# Altium integrated library Actel IGLOO.IntLib: 429 symbols (part 1 of 45)
Pins are listed as number, name and electrical type; pins without a type are passive.

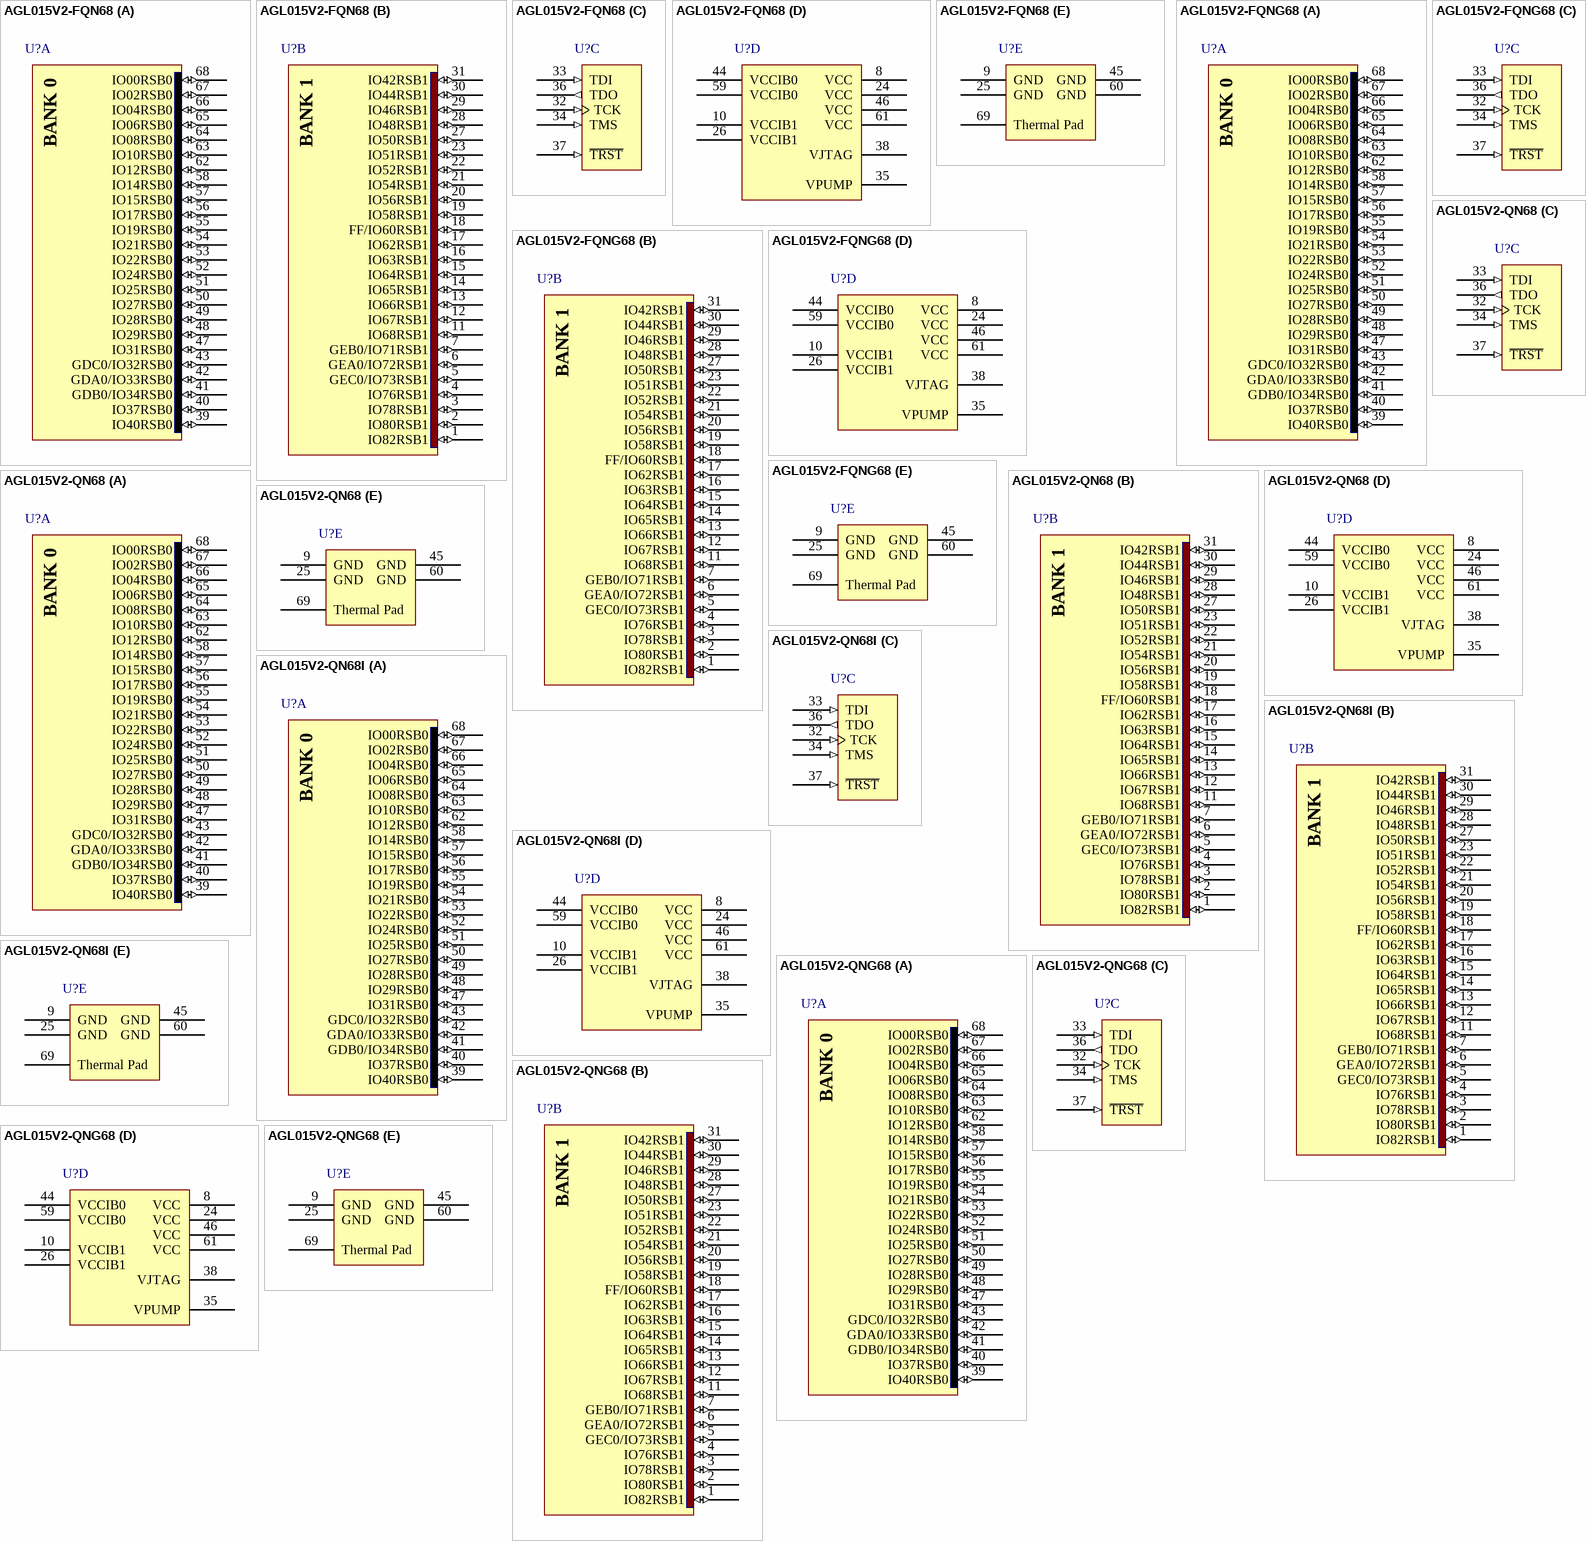
[diagram p0: symbols AGL015V2-FQN68 to AGL015V2-QNG68]

## AGL015V2-FQN68
designator U?
IGLOO Low-Power Flash 1.2/1.5V FPGA with Flash*Freeze, 49 User IOs, 15K System Gates, 1Kbit Flash ROM, 68-Pin QFN, F Speed Grade, Commercial Grade; DatasheetVersion: v1.2, Feb-2008; PackageVersion: rev40, Jun-2011; PackageReference: QN68; PackageDescription: 68-Pin Quad Flat No-Lead 0.4 mm Pitch (QN68); Code_JEDEC: MO-220-VLLE-1; ComponentLink1Description: Manufacturer URL; ComponentLink1URL: http://www.actel.com/; ComponentLink2Description: IGLOO Datasheet; ComponentLink2URL: http://www.actel.com/documents/IGLOO_DS.pdf; ComponentLink3Description: Package Mechanical Drawings; ComponentLink3URL: http://www.actel.com/documents/PckgMechDrwngs.pdf; ComponentLink4Description: IGLOO Documents; ComponentLink4URL: http://www.actel.com/products/igloo/docs.aspx
footprint QN68_N (QFN, 68-Leads, Body 8x8mm, Pitch 0.4mm, Thermal Pad 3.1x3.1mm, IPC Medium Density)
footprint QN68_L (QFN, 68-Leads, Body 8x8mm, Pitch 0.4mm, Thermal Pad 3.1x3.1mm, IPC High Density)
footprint QN68_M (QFN, 68-Leads, Body 8x8mm, Pitch 0.4mm, Thermal Pad 3.1x3.1mm, IPC Low Density)
part A pins: 39 IO40RSB0 (io), 40 IO37RSB0 (io), 41 GDB0/IO34RSB0 (io), 42 GDA0/IO33RSB0 (io), 43 GDC0/IO32RSB0 (io), 47 IO31RSB0 (io), 48 IO29RSB0 (io), 49 IO28RSB0 (io), 50 IO27RSB0 (io), 51 IO25RSB0 (io), 52 IO24RSB0 (io), 53 IO22RSB0 (io), 54 IO21RSB0 (io), 55 IO19RSB0 (io), 56 IO17RSB0 (io), 57 IO15RSB0 (io), 58 IO14RSB0 (io), 62 IO12RSB0 (io), 63 IO10RSB0 (io), 64 IO08RSB0 (io), 65 IO06RSB0 (io), 66 IO04RSB0 (io), 67 IO02RSB0 (io), 68 IO00RSB0 (io)
part B pins: 1 IO82RSB1 (io), 2 IO80RSB1 (io), 3 IO78RSB1 (io), 4 IO76RSB1 (io), 5 GEC0/IO73RSB1 (io), 6 GEA0/IO72RSB1 (io), 7 GEB0/IO71RSB1 (io), 11 IO68RSB1 (io), 12 IO67RSB1 (io), 13 IO66RSB1 (io), 14 IO65RSB1 (io), 15 IO64RSB1 (io), 16 IO63RSB1 (io), 17 IO62RSB1 (io), 18 FF/IO60RSB1 (io), 19 IO58RSB1 (io), 20 IO56RSB1 (io), 21 IO54RSB1 (io), 22 IO52RSB1 (io), 23 IO51RSB1 (io), 27 IO50RSB1 (io), 28 IO48RSB1 (io), 29 IO46RSB1 (io), 30 IO44RSB1 (io), 31 IO42RSB1 (io)
part C pins: 32 TCK (in), 33 TDI (in), 34 TMS (in), 36 TDO (out), 37 ~{TRST} (in)
part D pins: 8 VCC (power), 10 VCCIB1 (power), 24 VCC (power), 26 VCCIB1 (power), 35 VPUMP (power), 38 VJTAG (power), 44 VCCIB0 (power), 46 VCC (power), 59 VCCIB0 (power), 61 VCC (power)
part E pins: 9 GND (power), 25 GND (power), 45 GND (power), 60 GND (power), 69 Thermal Pad (power)
part A text: BANK 0
part B text: BANK 1

## AGL015V2-FQNG68
designator U?
IGLOO Low-Power Flash 1.2/1.5V FPGA with Flash*Freeze, 49 User IOs, 15K System Gates, 1Kbit Flash ROM, 68-Pin QFN, F Speed Grade, Commercial Grade, Pb-Free; DatasheetVersion: v1.2, Feb-2008; PackageVersion: rev40, Jun-2011; PackageReference: QN68; PackageDescription: 68-Pin Quad Flat No-Lead 0.4 mm Pitch (QN68); Code_JEDEC: MO-220-VLLE-1; ComponentLink1Description: Manufacturer URL; ComponentLink1URL: http://www.actel.com/; ComponentLink2Description: IGLOO Datasheet; ComponentLink2URL: http://www.actel.com/documents/IGLOO_DS.pdf; ComponentLink3Description: Package Mechanical Drawings; ComponentLink3URL: http://www.actel.com/documents/PckgMechDrwngs.pdf; ComponentLink4Description: IGLOO Documents; ComponentLink4URL: http://www.actel.com/products/igloo/docs.aspx
footprint QN68_N (QFN, 68-Leads, Body 8x8mm, Pitch 0.4mm, Thermal Pad 3.1x3.1mm, IPC Medium Density)
footprint QN68_L (QFN, 68-Leads, Body 8x8mm, Pitch 0.4mm, Thermal Pad 3.1x3.1mm, IPC High Density)
footprint QN68_M (QFN, 68-Leads, Body 8x8mm, Pitch 0.4mm, Thermal Pad 3.1x3.1mm, IPC Low Density)
part A pins: 39 IO40RSB0 (io), 40 IO37RSB0 (io), 41 GDB0/IO34RSB0 (io), 42 GDA0/IO33RSB0 (io), 43 GDC0/IO32RSB0 (io), 47 IO31RSB0 (io), 48 IO29RSB0 (io), 49 IO28RSB0 (io), 50 IO27RSB0 (io), 51 IO25RSB0 (io), 52 IO24RSB0 (io), 53 IO22RSB0 (io), 54 IO21RSB0 (io), 55 IO19RSB0 (io), 56 IO17RSB0 (io), 57 IO15RSB0 (io), 58 IO14RSB0 (io), 62 IO12RSB0 (io), 63 IO10RSB0 (io), 64 IO08RSB0 (io), 65 IO06RSB0 (io), 66 IO04RSB0 (io), 67 IO02RSB0 (io), 68 IO00RSB0 (io)
part B pins: 1 IO82RSB1 (io), 2 IO80RSB1 (io), 3 IO78RSB1 (io), 4 IO76RSB1 (io), 5 GEC0/IO73RSB1 (io), 6 GEA0/IO72RSB1 (io), 7 GEB0/IO71RSB1 (io), 11 IO68RSB1 (io), 12 IO67RSB1 (io), 13 IO66RSB1 (io), 14 IO65RSB1 (io), 15 IO64RSB1 (io), 16 IO63RSB1 (io), 17 IO62RSB1 (io), 18 FF/IO60RSB1 (io), 19 IO58RSB1 (io), 20 IO56RSB1 (io), 21 IO54RSB1 (io), 22 IO52RSB1 (io), 23 IO51RSB1 (io), 27 IO50RSB1 (io), 28 IO48RSB1 (io), 29 IO46RSB1 (io), 30 IO44RSB1 (io), 31 IO42RSB1 (io)
part C pins: 32 TCK (in), 33 TDI (in), 34 TMS (in), 36 TDO (out), 37 ~{TRST} (in)
part D pins: 8 VCC (power), 10 VCCIB1 (power), 24 VCC (power), 26 VCCIB1 (power), 35 VPUMP (power), 38 VJTAG (power), 44 VCCIB0 (power), 46 VCC (power), 59 VCCIB0 (power), 61 VCC (power)
part E pins: 9 GND (power), 25 GND (power), 45 GND (power), 60 GND (power), 69 Thermal Pad (power)
part A text: BANK 0
part B text: BANK 1

## AGL015V2-QN68
designator U?
IGLOO Low-Power Flash 1.2/1.5V FPGA with Flash*Freeze, 49 User IOs, 15K System Gates, 1Kbit Flash ROM, 68-Pin QFN, Commercial Grade; DatasheetVersion: v2.0, Nov-2009; PackageVersion: rev40, Jun-2011; PackageReference: QN68; PackageDescription: 68-Pin Quad Flat No-Lead 0.4 mm Pitch (QN68); Code_JEDEC: MO-220-VLLE-1; ComponentLink1Description: Manufacturer URL; ComponentLink1URL: http://www.actel.com/; ComponentLink2Description: IGLOO Datasheet; ComponentLink2URL: http://www.actel.com/documents/IGLOO_DS.pdf; ComponentLink3Description: Package Mechanical Drawings; ComponentLink3URL: http://www.actel.com/documents/PckgMechDrwngs.pdf; ComponentLink4Description: IGLOO Documents; ComponentLink4URL: http://www.actel.com/products/igloo/docs.aspx
footprint QN68_N (QFN, 68-Leads, Body 8x8mm, Pitch 0.4mm, Thermal Pad 3.1x3.1mm, IPC Medium Density)
footprint QN68_L (QFN, 68-Leads, Body 8x8mm, Pitch 0.4mm, Thermal Pad 3.1x3.1mm, IPC High Density)
footprint QN68_M (QFN, 68-Leads, Body 8x8mm, Pitch 0.4mm, Thermal Pad 3.1x3.1mm, IPC Low Density)
part A pins: 39 IO40RSB0 (io), 40 IO37RSB0 (io), 41 GDB0/IO34RSB0 (io), 42 GDA0/IO33RSB0 (io), 43 GDC0/IO32RSB0 (io), 47 IO31RSB0 (io), 48 IO29RSB0 (io), 49 IO28RSB0 (io), 50 IO27RSB0 (io), 51 IO25RSB0 (io), 52 IO24RSB0 (io), 53 IO22RSB0 (io), 54 IO21RSB0 (io), 55 IO19RSB0 (io), 56 IO17RSB0 (io), 57 IO15RSB0 (io), 58 IO14RSB0 (io), 62 IO12RSB0 (io), 63 IO10RSB0 (io), 64 IO08RSB0 (io), 65 IO06RSB0 (io), 66 IO04RSB0 (io), 67 IO02RSB0 (io), 68 IO00RSB0 (io)
part B pins: 1 IO82RSB1 (io), 2 IO80RSB1 (io), 3 IO78RSB1 (io), 4 IO76RSB1 (io), 5 GEC0/IO73RSB1 (io), 6 GEA0/IO72RSB1 (io), 7 GEB0/IO71RSB1 (io), 11 IO68RSB1 (io), 12 IO67RSB1 (io), 13 IO66RSB1 (io), 14 IO65RSB1 (io), 15 IO64RSB1 (io), 16 IO63RSB1 (io), 17 IO62RSB1 (io), 18 FF/IO60RSB1 (io), 19 IO58RSB1 (io), 20 IO56RSB1 (io), 21 IO54RSB1 (io), 22 IO52RSB1 (io), 23 IO51RSB1 (io), 27 IO50RSB1 (io), 28 IO48RSB1 (io), 29 IO46RSB1 (io), 30 IO44RSB1 (io), 31 IO42RSB1 (io)
part C pins: 32 TCK (in), 33 TDI (in), 34 TMS (in), 36 TDO (out), 37 ~{TRST} (in)
part D pins: 8 VCC (power), 10 VCCIB1 (power), 24 VCC (power), 26 VCCIB1 (power), 35 VPUMP (power), 38 VJTAG (power), 44 VCCIB0 (power), 46 VCC (power), 59 VCCIB0 (power), 61 VCC (power)
part E pins: 9 GND (power), 25 GND (power), 45 GND (power), 60 GND (power), 69 Thermal Pad (power)
part A text: BANK 0
part B text: BANK 1

## AGL015V2-QN68I
designator U?
IGLOO Low-Power Flash 1.2/1.5V FPGA with Flash*Freeze, 49 User IOs, 15K System Gates, 1Kbit Flash ROM, 68-Pin QFN, Industrial Grade; DatasheetVersion: v2.0, Nov-2009; PackageVersion: rev40, Jun-2011; PackageReference: QN68; PackageDescription: 68-Pin Quad Flat No-Lead 0.4 mm Pitch (QN68); Code_JEDEC: MO-220-VLLE-1; ComponentLink1Description: Manufacturer URL; ComponentLink1URL: http://www.actel.com/; ComponentLink2Description: IGLOO Datasheet; ComponentLink2URL: http://www.actel.com/documents/IGLOO_DS.pdf; ComponentLink3Description: Package Mechanical Drawings; ComponentLink3URL: http://www.actel.com/documents/PckgMechDrwngs.pdf; ComponentLink4Description: IGLOO Documents; ComponentLink4URL: http://www.actel.com/products/igloo/docs.aspx
footprint QN68_N (QFN, 68-Leads, Body 8x8mm, Pitch 0.4mm, Thermal Pad 3.1x3.1mm, IPC Medium Density)
footprint QN68_L (QFN, 68-Leads, Body 8x8mm, Pitch 0.4mm, Thermal Pad 3.1x3.1mm, IPC High Density)
footprint QN68_M (QFN, 68-Leads, Body 8x8mm, Pitch 0.4mm, Thermal Pad 3.1x3.1mm, IPC Low Density)
part A pins: 39 IO40RSB0 (io), 40 IO37RSB0 (io), 41 GDB0/IO34RSB0 (io), 42 GDA0/IO33RSB0 (io), 43 GDC0/IO32RSB0 (io), 47 IO31RSB0 (io), 48 IO29RSB0 (io), 49 IO28RSB0 (io), 50 IO27RSB0 (io), 51 IO25RSB0 (io), 52 IO24RSB0 (io), 53 IO22RSB0 (io), 54 IO21RSB0 (io), 55 IO19RSB0 (io), 56 IO17RSB0 (io), 57 IO15RSB0 (io), 58 IO14RSB0 (io), 62 IO12RSB0 (io), 63 IO10RSB0 (io), 64 IO08RSB0 (io), 65 IO06RSB0 (io), 66 IO04RSB0 (io), 67 IO02RSB0 (io), 68 IO00RSB0 (io)
part B pins: 1 IO82RSB1 (io), 2 IO80RSB1 (io), 3 IO78RSB1 (io), 4 IO76RSB1 (io), 5 GEC0/IO73RSB1 (io), 6 GEA0/IO72RSB1 (io), 7 GEB0/IO71RSB1 (io), 11 IO68RSB1 (io), 12 IO67RSB1 (io), 13 IO66RSB1 (io), 14 IO65RSB1 (io), 15 IO64RSB1 (io), 16 IO63RSB1 (io), 17 IO62RSB1 (io), 18 FF/IO60RSB1 (io), 19 IO58RSB1 (io), 20 IO56RSB1 (io), 21 IO54RSB1 (io), 22 IO52RSB1 (io), 23 IO51RSB1 (io), 27 IO50RSB1 (io), 28 IO48RSB1 (io), 29 IO46RSB1 (io), 30 IO44RSB1 (io), 31 IO42RSB1 (io)
part C pins: 32 TCK (in), 33 TDI (in), 34 TMS (in), 36 TDO (out), 37 ~{TRST} (in)
part D pins: 8 VCC (power), 10 VCCIB1 (power), 24 VCC (power), 26 VCCIB1 (power), 35 VPUMP (power), 38 VJTAG (power), 44 VCCIB0 (power), 46 VCC (power), 59 VCCIB0 (power), 61 VCC (power)
part E pins: 9 GND (power), 25 GND (power), 45 GND (power), 60 GND (power), 69 Thermal Pad (power)
part A text: BANK 0
part B text: BANK 1

## AGL015V2-QNG68
designator U?
IGLOO Low-Power Flash 1.2/1.5V FPGA with Flash*Freeze, 49 User IOs, 15K System Gates, 1Kbit Flash ROM, 68-Pin QFN, Commercial Grade, Pb-Free; DatasheetVersion: v2.0, Nov-2009; PackageVersion: rev40, Jun-2011; PackageReference: QN68; PackageDescription: 68-Pin Quad Flat No-Lead 0.4 mm Pitch (QN68); Code_JEDEC: MO-220-VLLE-1; ComponentLink1Description: Manufacturer URL; ComponentLink1URL: http://www.actel.com/; ComponentLink2Description: IGLOO Datasheet; ComponentLink2URL: http://www.actel.com/documents/IGLOO_DS.pdf; ComponentLink3Description: Package Mechanical Drawings; ComponentLink3URL: http://www.actel.com/documents/PckgMechDrwngs.pdf; ComponentLink4Description: IGLOO Documents; ComponentLink4URL: http://www.actel.com/products/igloo/docs.aspx
footprint QN68_N (QFN, 68-Leads, Body 8x8mm, Pitch 0.4mm, Thermal Pad 3.1x3.1mm, IPC Medium Density)
footprint QN68_L (QFN, 68-Leads, Body 8x8mm, Pitch 0.4mm, Thermal Pad 3.1x3.1mm, IPC High Density)
footprint QN68_M (QFN, 68-Leads, Body 8x8mm, Pitch 0.4mm, Thermal Pad 3.1x3.1mm, IPC Low Density)
part A pins: 39 IO40RSB0 (io), 40 IO37RSB0 (io), 41 GDB0/IO34RSB0 (io), 42 GDA0/IO33RSB0 (io), 43 GDC0/IO32RSB0 (io), 47 IO31RSB0 (io), 48 IO29RSB0 (io), 49 IO28RSB0 (io), 50 IO27RSB0 (io), 51 IO25RSB0 (io), 52 IO24RSB0 (io), 53 IO22RSB0 (io), 54 IO21RSB0 (io), 55 IO19RSB0 (io), 56 IO17RSB0 (io), 57 IO15RSB0 (io), 58 IO14RSB0 (io), 62 IO12RSB0 (io), 63 IO10RSB0 (io), 64 IO08RSB0 (io), 65 IO06RSB0 (io), 66 IO04RSB0 (io), 67 IO02RSB0 (io), 68 IO00RSB0 (io)
part B pins: 1 IO82RSB1 (io), 2 IO80RSB1 (io), 3 IO78RSB1 (io), 4 IO76RSB1 (io), 5 GEC0/IO73RSB1 (io), 6 GEA0/IO72RSB1 (io), 7 GEB0/IO71RSB1 (io), 11 IO68RSB1 (io), 12 IO67RSB1 (io), 13 IO66RSB1 (io), 14 IO65RSB1 (io), 15 IO64RSB1 (io), 16 IO63RSB1 (io), 17 IO62RSB1 (io), 18 FF/IO60RSB1 (io), 19 IO58RSB1 (io), 20 IO56RSB1 (io), 21 IO54RSB1 (io), 22 IO52RSB1 (io), 23 IO51RSB1 (io), 27 IO50RSB1 (io), 28 IO48RSB1 (io), 29 IO46RSB1 (io), 30 IO44RSB1 (io), 31 IO42RSB1 (io)
part C pins: 32 TCK (in), 33 TDI (in), 34 TMS (in), 36 TDO (out), 37 ~{TRST} (in)
part D pins: 8 VCC (power), 10 VCCIB1 (power), 24 VCC (power), 26 VCCIB1 (power), 35 VPUMP (power), 38 VJTAG (power), 44 VCCIB0 (power), 46 VCC (power), 59 VCCIB0 (power), 61 VCC (power)
part E pins: 9 GND (power), 25 GND (power), 45 GND (power), 60 GND (power), 69 Thermal Pad (power)
part A text: BANK 0
part B text: BANK 1

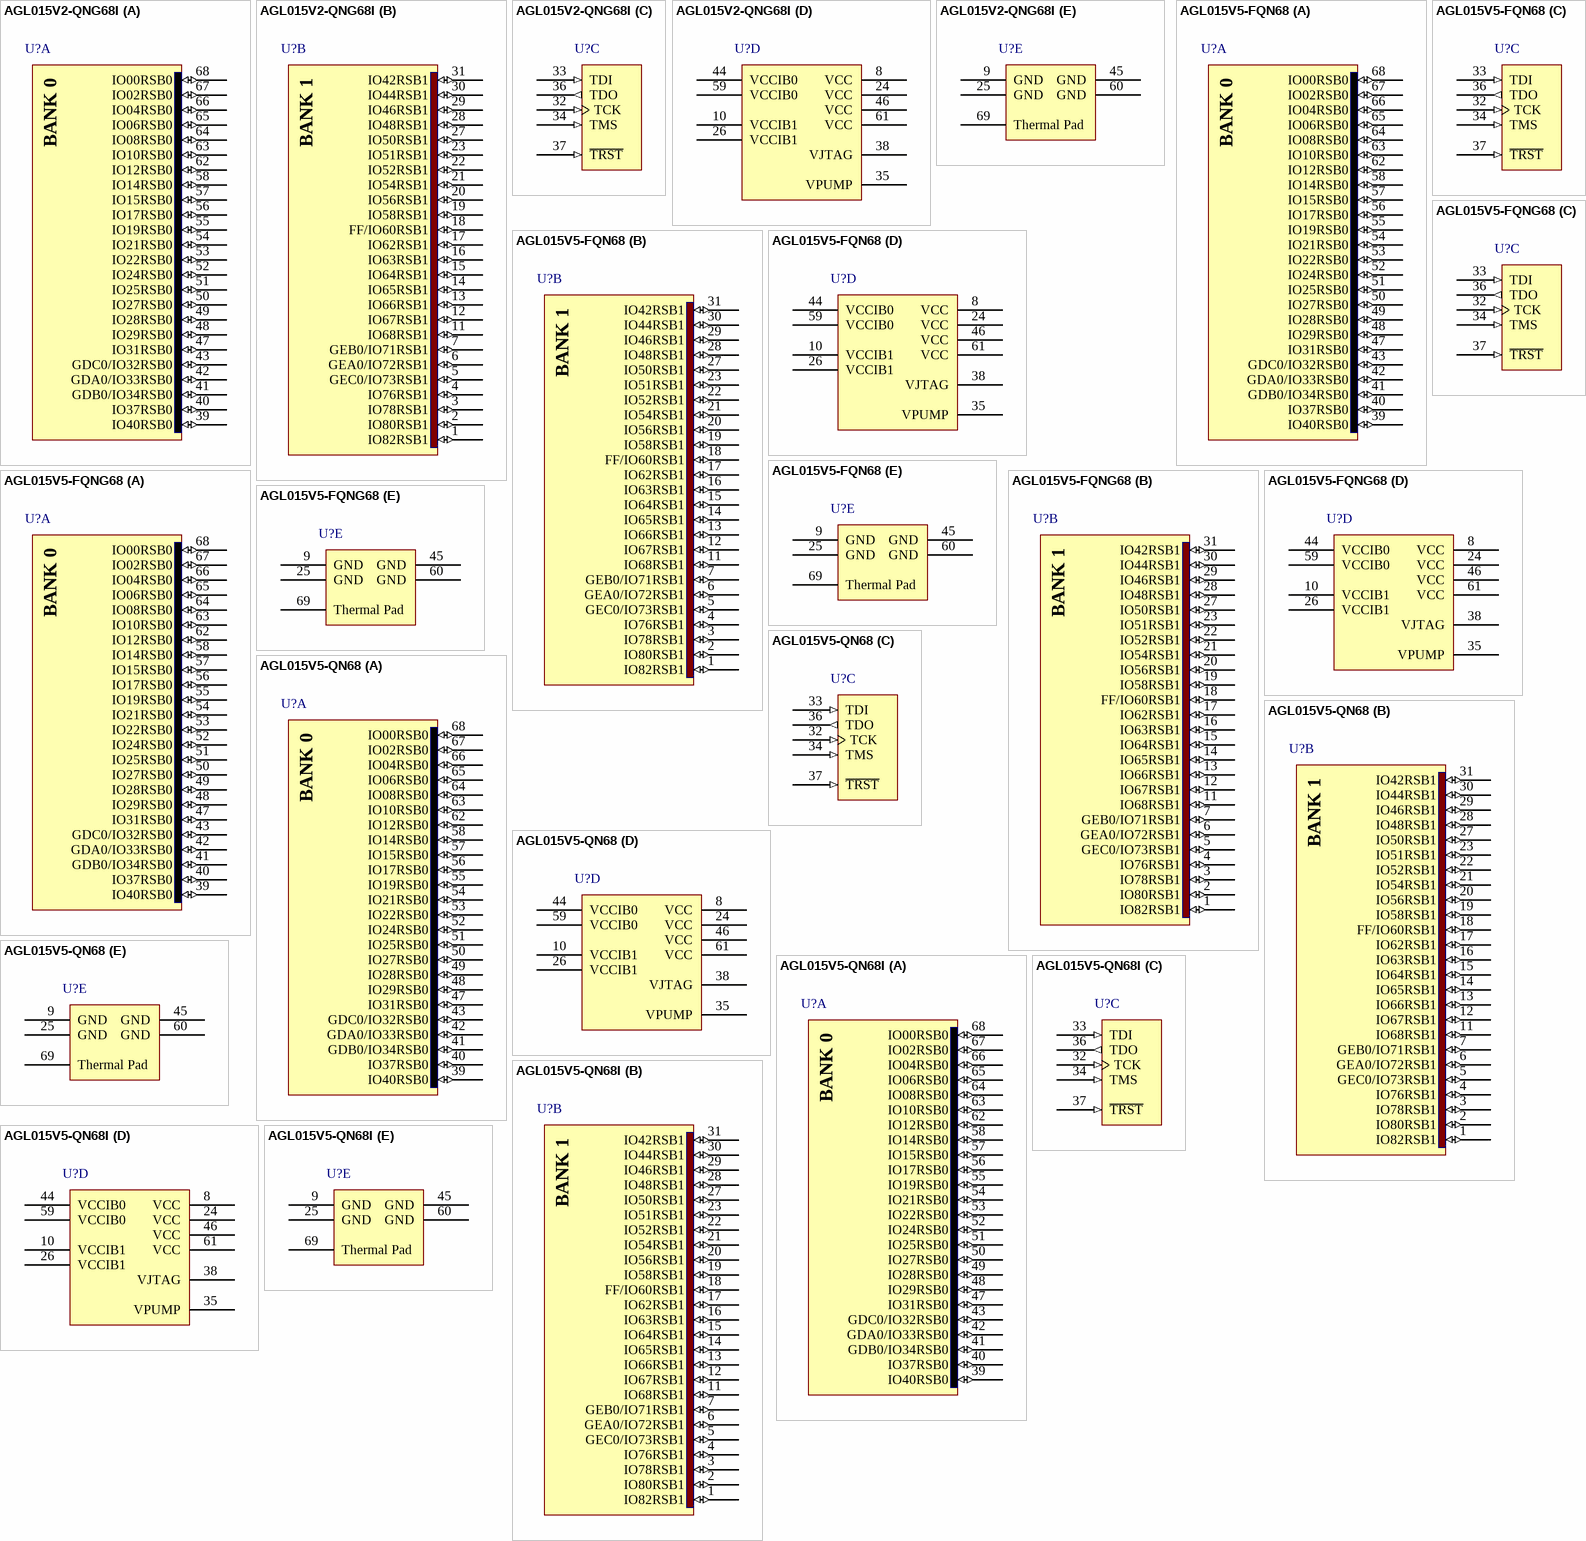
[diagram p1: symbols AGL015V2-QNG68I to AGL015V5-QN68I]

## AGL015V2-QNG68I
designator U?
IGLOO Low-Power Flash 1.2/1.5V FPGA with Flash*Freeze, 49 User IOs, 15K System Gates, 1Kbit Flash ROM, 68-Pin QFN, Industrial Grade, Pb-Free; DatasheetVersion: v2.0, Nov-2009; PackageVersion: rev40, Jun-2011; PackageReference: QN68; PackageDescription: 68-Pin Quad Flat No-Lead 0.4 mm Pitch (QN68); Code_JEDEC: MO-220-VLLE-1; ComponentLink1Description: Manufacturer URL; ComponentLink1URL: http://www.actel.com/; ComponentLink2Description: IGLOO Datasheet; ComponentLink2URL: http://www.actel.com/documents/IGLOO_DS.pdf; ComponentLink3Description: Package Mechanical Drawings; ComponentLink3URL: http://www.actel.com/documents/PckgMechDrwngs.pdf; ComponentLink4Description: IGLOO Documents; ComponentLink4URL: http://www.actel.com/products/igloo/docs.aspx
footprint QN68_N (QFN, 68-Leads, Body 8x8mm, Pitch 0.4mm, Thermal Pad 3.1x3.1mm, IPC Medium Density)
footprint QN68_L (QFN, 68-Leads, Body 8x8mm, Pitch 0.4mm, Thermal Pad 3.1x3.1mm, IPC High Density)
footprint QN68_M (QFN, 68-Leads, Body 8x8mm, Pitch 0.4mm, Thermal Pad 3.1x3.1mm, IPC Low Density)
part A pins: 39 IO40RSB0 (io), 40 IO37RSB0 (io), 41 GDB0/IO34RSB0 (io), 42 GDA0/IO33RSB0 (io), 43 GDC0/IO32RSB0 (io), 47 IO31RSB0 (io), 48 IO29RSB0 (io), 49 IO28RSB0 (io), 50 IO27RSB0 (io), 51 IO25RSB0 (io), 52 IO24RSB0 (io), 53 IO22RSB0 (io), 54 IO21RSB0 (io), 55 IO19RSB0 (io), 56 IO17RSB0 (io), 57 IO15RSB0 (io), 58 IO14RSB0 (io), 62 IO12RSB0 (io), 63 IO10RSB0 (io), 64 IO08RSB0 (io), 65 IO06RSB0 (io), 66 IO04RSB0 (io), 67 IO02RSB0 (io), 68 IO00RSB0 (io)
part B pins: 1 IO82RSB1 (io), 2 IO80RSB1 (io), 3 IO78RSB1 (io), 4 IO76RSB1 (io), 5 GEC0/IO73RSB1 (io), 6 GEA0/IO72RSB1 (io), 7 GEB0/IO71RSB1 (io), 11 IO68RSB1 (io), 12 IO67RSB1 (io), 13 IO66RSB1 (io), 14 IO65RSB1 (io), 15 IO64RSB1 (io), 16 IO63RSB1 (io), 17 IO62RSB1 (io), 18 FF/IO60RSB1 (io), 19 IO58RSB1 (io), 20 IO56RSB1 (io), 21 IO54RSB1 (io), 22 IO52RSB1 (io), 23 IO51RSB1 (io), 27 IO50RSB1 (io), 28 IO48RSB1 (io), 29 IO46RSB1 (io), 30 IO44RSB1 (io), 31 IO42RSB1 (io)
part C pins: 32 TCK (in), 33 TDI (in), 34 TMS (in), 36 TDO (out), 37 ~{TRST} (in)
part D pins: 8 VCC (power), 10 VCCIB1 (power), 24 VCC (power), 26 VCCIB1 (power), 35 VPUMP (power), 38 VJTAG (power), 44 VCCIB0 (power), 46 VCC (power), 59 VCCIB0 (power), 61 VCC (power)
part E pins: 9 GND (power), 25 GND (power), 45 GND (power), 60 GND (power), 69 Thermal Pad (power)
part A text: BANK 0
part B text: BANK 1

## AGL015V5-FQN68
designator U?
IGLOO Low-Power Flash 1.5V FPGA with Flash*Freeze, 49 User IOs, 15K System Gates, 1Kbit Flash ROM, 68-Pin QFN, F Speed Grade, Commercial Grade; DatasheetVersion: v1.2, Feb-2008; PackageVersion: rev40, Jun-2011; PackageReference: QN68; PackageDescription: 68-Pin Quad Flat No-Lead 0.4 mm Pitch (QN68); Code_JEDEC: MO-220-VLLE-1; ComponentLink1Description: Manufacturer URL; ComponentLink1URL: http://www.actel.com/; ComponentLink2Description: IGLOO Datasheet; ComponentLink2URL: http://www.actel.com/documents/IGLOO_DS.pdf; ComponentLink3Description: Package Mechanical Drawings; ComponentLink3URL: http://www.actel.com/documents/PckgMechDrwngs.pdf; ComponentLink4Description: IGLOO Documents; ComponentLink4URL: http://www.actel.com/products/igloo/docs.aspx
footprint QN68_N (QFN, 68-Leads, Body 8x8mm, Pitch 0.4mm, Thermal Pad 3.1x3.1mm, IPC Medium Density)
footprint QN68_L (QFN, 68-Leads, Body 8x8mm, Pitch 0.4mm, Thermal Pad 3.1x3.1mm, IPC High Density)
footprint QN68_M (QFN, 68-Leads, Body 8x8mm, Pitch 0.4mm, Thermal Pad 3.1x3.1mm, IPC Low Density)
part A pins: 39 IO40RSB0 (io), 40 IO37RSB0 (io), 41 GDB0/IO34RSB0 (io), 42 GDA0/IO33RSB0 (io), 43 GDC0/IO32RSB0 (io), 47 IO31RSB0 (io), 48 IO29RSB0 (io), 49 IO28RSB0 (io), 50 IO27RSB0 (io), 51 IO25RSB0 (io), 52 IO24RSB0 (io), 53 IO22RSB0 (io), 54 IO21RSB0 (io), 55 IO19RSB0 (io), 56 IO17RSB0 (io), 57 IO15RSB0 (io), 58 IO14RSB0 (io), 62 IO12RSB0 (io), 63 IO10RSB0 (io), 64 IO08RSB0 (io), 65 IO06RSB0 (io), 66 IO04RSB0 (io), 67 IO02RSB0 (io), 68 IO00RSB0 (io)
part B pins: 1 IO82RSB1 (io), 2 IO80RSB1 (io), 3 IO78RSB1 (io), 4 IO76RSB1 (io), 5 GEC0/IO73RSB1 (io), 6 GEA0/IO72RSB1 (io), 7 GEB0/IO71RSB1 (io), 11 IO68RSB1 (io), 12 IO67RSB1 (io), 13 IO66RSB1 (io), 14 IO65RSB1 (io), 15 IO64RSB1 (io), 16 IO63RSB1 (io), 17 IO62RSB1 (io), 18 FF/IO60RSB1 (io), 19 IO58RSB1 (io), 20 IO56RSB1 (io), 21 IO54RSB1 (io), 22 IO52RSB1 (io), 23 IO51RSB1 (io), 27 IO50RSB1 (io), 28 IO48RSB1 (io), 29 IO46RSB1 (io), 30 IO44RSB1 (io), 31 IO42RSB1 (io)
part C pins: 32 TCK (in), 33 TDI (in), 34 TMS (in), 36 TDO (out), 37 ~{TRST} (in)
part D pins: 8 VCC (power), 10 VCCIB1 (power), 24 VCC (power), 26 VCCIB1 (power), 35 VPUMP (power), 38 VJTAG (power), 44 VCCIB0 (power), 46 VCC (power), 59 VCCIB0 (power), 61 VCC (power)
part E pins: 9 GND (power), 25 GND (power), 45 GND (power), 60 GND (power), 69 Thermal Pad (power)
part A text: BANK 0
part B text: BANK 1

## AGL015V5-FQNG68
designator U?
IGLOO Low-Power Flash 1.5V FPGA with Flash*Freeze, 49 User IOs, 15K System Gates, 1Kbit Flash ROM, 68-Pin QFN, F Speed Grade, Commercial Grade, Pb-Free; DatasheetVersion: v1.2, Feb-2008; PackageVersion: rev40, Jun-2011; PackageReference: QN68; PackageDescription: 68-Pin Quad Flat No-Lead 0.4 mm Pitch (QN68); Code_JEDEC: MO-220-VLLE-1; ComponentLink1Description: Manufacturer URL; ComponentLink1URL: http://www.actel.com/; ComponentLink2Description: IGLOO Datasheet; ComponentLink2URL: http://www.actel.com/documents/IGLOO_DS.pdf; ComponentLink3Description: Package Mechanical Drawings; ComponentLink3URL: http://www.actel.com/documents/PckgMechDrwngs.pdf; ComponentLink4Description: IGLOO Documents; ComponentLink4URL: http://www.actel.com/products/igloo/docs.aspx
footprint QN68_N (QFN, 68-Leads, Body 8x8mm, Pitch 0.4mm, Thermal Pad 3.1x3.1mm, IPC Medium Density)
footprint QN68_L (QFN, 68-Leads, Body 8x8mm, Pitch 0.4mm, Thermal Pad 3.1x3.1mm, IPC High Density)
footprint QN68_M (QFN, 68-Leads, Body 8x8mm, Pitch 0.4mm, Thermal Pad 3.1x3.1mm, IPC Low Density)
part A pins: 39 IO40RSB0 (io), 40 IO37RSB0 (io), 41 GDB0/IO34RSB0 (io), 42 GDA0/IO33RSB0 (io), 43 GDC0/IO32RSB0 (io), 47 IO31RSB0 (io), 48 IO29RSB0 (io), 49 IO28RSB0 (io), 50 IO27RSB0 (io), 51 IO25RSB0 (io), 52 IO24RSB0 (io), 53 IO22RSB0 (io), 54 IO21RSB0 (io), 55 IO19RSB0 (io), 56 IO17RSB0 (io), 57 IO15RSB0 (io), 58 IO14RSB0 (io), 62 IO12RSB0 (io), 63 IO10RSB0 (io), 64 IO08RSB0 (io), 65 IO06RSB0 (io), 66 IO04RSB0 (io), 67 IO02RSB0 (io), 68 IO00RSB0 (io)
part B pins: 1 IO82RSB1 (io), 2 IO80RSB1 (io), 3 IO78RSB1 (io), 4 IO76RSB1 (io), 5 GEC0/IO73RSB1 (io), 6 GEA0/IO72RSB1 (io), 7 GEB0/IO71RSB1 (io), 11 IO68RSB1 (io), 12 IO67RSB1 (io), 13 IO66RSB1 (io), 14 IO65RSB1 (io), 15 IO64RSB1 (io), 16 IO63RSB1 (io), 17 IO62RSB1 (io), 18 FF/IO60RSB1 (io), 19 IO58RSB1 (io), 20 IO56RSB1 (io), 21 IO54RSB1 (io), 22 IO52RSB1 (io), 23 IO51RSB1 (io), 27 IO50RSB1 (io), 28 IO48RSB1 (io), 29 IO46RSB1 (io), 30 IO44RSB1 (io), 31 IO42RSB1 (io)
part C pins: 32 TCK (in), 33 TDI (in), 34 TMS (in), 36 TDO (out), 37 ~{TRST} (in)
part D pins: 8 VCC (power), 10 VCCIB1 (power), 24 VCC (power), 26 VCCIB1 (power), 35 VPUMP (power), 38 VJTAG (power), 44 VCCIB0 (power), 46 VCC (power), 59 VCCIB0 (power), 61 VCC (power)
part E pins: 9 GND (power), 25 GND (power), 45 GND (power), 60 GND (power), 69 Thermal Pad (power)
part A text: BANK 0
part B text: BANK 1

## AGL015V5-QN68
designator U?
IGLOO Low-Power Flash 1.5V FPGA with Flash*Freeze, 49 User IOs, 15K System Gates, 1Kbit Flash ROM, 68-Pin QFN, Commercial Grade; DatasheetVersion: v2.0, Nov-2009; PackageVersion: rev40, Jun-2011; PackageReference: QN68; PackageDescription: 68-Pin Quad Flat No-Lead 0.4 mm Pitch (QN68); Code_JEDEC: MO-220-VLLE-1; ComponentLink1Description: Manufacturer URL; ComponentLink1URL: http://www.actel.com/; ComponentLink2Description: IGLOO Datasheet; ComponentLink2URL: http://www.actel.com/documents/IGLOO_DS.pdf; ComponentLink3Description: Package Mechanical Drawings; ComponentLink3URL: http://www.actel.com/documents/PckgMechDrwngs.pdf; ComponentLink4Description: IGLOO Documents; ComponentLink4URL: http://www.actel.com/products/igloo/docs.aspx
footprint QN68_N (QFN, 68-Leads, Body 8x8mm, Pitch 0.4mm, Thermal Pad 3.1x3.1mm, IPC Medium Density)
footprint QN68_L (QFN, 68-Leads, Body 8x8mm, Pitch 0.4mm, Thermal Pad 3.1x3.1mm, IPC High Density)
footprint QN68_M (QFN, 68-Leads, Body 8x8mm, Pitch 0.4mm, Thermal Pad 3.1x3.1mm, IPC Low Density)
part A pins: 39 IO40RSB0 (io), 40 IO37RSB0 (io), 41 GDB0/IO34RSB0 (io), 42 GDA0/IO33RSB0 (io), 43 GDC0/IO32RSB0 (io), 47 IO31RSB0 (io), 48 IO29RSB0 (io), 49 IO28RSB0 (io), 50 IO27RSB0 (io), 51 IO25RSB0 (io), 52 IO24RSB0 (io), 53 IO22RSB0 (io), 54 IO21RSB0 (io), 55 IO19RSB0 (io), 56 IO17RSB0 (io), 57 IO15RSB0 (io), 58 IO14RSB0 (io), 62 IO12RSB0 (io), 63 IO10RSB0 (io), 64 IO08RSB0 (io), 65 IO06RSB0 (io), 66 IO04RSB0 (io), 67 IO02RSB0 (io), 68 IO00RSB0 (io)
part B pins: 1 IO82RSB1 (io), 2 IO80RSB1 (io), 3 IO78RSB1 (io), 4 IO76RSB1 (io), 5 GEC0/IO73RSB1 (io), 6 GEA0/IO72RSB1 (io), 7 GEB0/IO71RSB1 (io), 11 IO68RSB1 (io), 12 IO67RSB1 (io), 13 IO66RSB1 (io), 14 IO65RSB1 (io), 15 IO64RSB1 (io), 16 IO63RSB1 (io), 17 IO62RSB1 (io), 18 FF/IO60RSB1 (io), 19 IO58RSB1 (io), 20 IO56RSB1 (io), 21 IO54RSB1 (io), 22 IO52RSB1 (io), 23 IO51RSB1 (io), 27 IO50RSB1 (io), 28 IO48RSB1 (io), 29 IO46RSB1 (io), 30 IO44RSB1 (io), 31 IO42RSB1 (io)
part C pins: 32 TCK (in), 33 TDI (in), 34 TMS (in), 36 TDO (out), 37 ~{TRST} (in)
part D pins: 8 VCC (power), 10 VCCIB1 (power), 24 VCC (power), 26 VCCIB1 (power), 35 VPUMP (power), 38 VJTAG (power), 44 VCCIB0 (power), 46 VCC (power), 59 VCCIB0 (power), 61 VCC (power)
part E pins: 9 GND (power), 25 GND (power), 45 GND (power), 60 GND (power), 69 Thermal Pad (power)
part A text: BANK 0
part B text: BANK 1

## AGL015V5-QN68I
designator U?
IGLOO Low-Power Flash 1.5V FPGA with Flash*Freeze, 49 User IOs, 15K System Gates, 1Kbit Flash ROM, 68-Pin QFN, Industrial Grade; DatasheetVersion: v2.0, Nov-2009; PackageVersion: rev40, Jun-2011; PackageReference: QN68; PackageDescription: 68-Pin Quad Flat No-Lead 0.4 mm Pitch (QN68); Code_JEDEC: MO-220-VLLE-1; ComponentLink1Description: Manufacturer URL; ComponentLink1URL: http://www.actel.com/; ComponentLink2Description: IGLOO Datasheet; ComponentLink2URL: http://www.actel.com/documents/IGLOO_DS.pdf; ComponentLink3Description: Package Mechanical Drawings; ComponentLink3URL: http://www.actel.com/documents/PckgMechDrwngs.pdf; ComponentLink4Description: IGLOO Documents; ComponentLink4URL: http://www.actel.com/products/igloo/docs.aspx
footprint QN68_N (QFN, 68-Leads, Body 8x8mm, Pitch 0.4mm, Thermal Pad 3.1x3.1mm, IPC Medium Density)
footprint QN68_L (QFN, 68-Leads, Body 8x8mm, Pitch 0.4mm, Thermal Pad 3.1x3.1mm, IPC High Density)
footprint QN68_M (QFN, 68-Leads, Body 8x8mm, Pitch 0.4mm, Thermal Pad 3.1x3.1mm, IPC Low Density)
part A pins: 39 IO40RSB0 (io), 40 IO37RSB0 (io), 41 GDB0/IO34RSB0 (io), 42 GDA0/IO33RSB0 (io), 43 GDC0/IO32RSB0 (io), 47 IO31RSB0 (io), 48 IO29RSB0 (io), 49 IO28RSB0 (io), 50 IO27RSB0 (io), 51 IO25RSB0 (io), 52 IO24RSB0 (io), 53 IO22RSB0 (io), 54 IO21RSB0 (io), 55 IO19RSB0 (io), 56 IO17RSB0 (io), 57 IO15RSB0 (io), 58 IO14RSB0 (io), 62 IO12RSB0 (io), 63 IO10RSB0 (io), 64 IO08RSB0 (io), 65 IO06RSB0 (io), 66 IO04RSB0 (io), 67 IO02RSB0 (io), 68 IO00RSB0 (io)
part B pins: 1 IO82RSB1 (io), 2 IO80RSB1 (io), 3 IO78RSB1 (io), 4 IO76RSB1 (io), 5 GEC0/IO73RSB1 (io), 6 GEA0/IO72RSB1 (io), 7 GEB0/IO71RSB1 (io), 11 IO68RSB1 (io), 12 IO67RSB1 (io), 13 IO66RSB1 (io), 14 IO65RSB1 (io), 15 IO64RSB1 (io), 16 IO63RSB1 (io), 17 IO62RSB1 (io), 18 FF/IO60RSB1 (io), 19 IO58RSB1 (io), 20 IO56RSB1 (io), 21 IO54RSB1 (io), 22 IO52RSB1 (io), 23 IO51RSB1 (io), 27 IO50RSB1 (io), 28 IO48RSB1 (io), 29 IO46RSB1 (io), 30 IO44RSB1 (io), 31 IO42RSB1 (io)
part C pins: 32 TCK (in), 33 TDI (in), 34 TMS (in), 36 TDO (out), 37 ~{TRST} (in)
part D pins: 8 VCC (power), 10 VCCIB1 (power), 24 VCC (power), 26 VCCIB1 (power), 35 VPUMP (power), 38 VJTAG (power), 44 VCCIB0 (power), 46 VCC (power), 59 VCCIB0 (power), 61 VCC (power)
part E pins: 9 GND (power), 25 GND (power), 45 GND (power), 60 GND (power), 69 Thermal Pad (power)
part A text: BANK 0
part B text: BANK 1

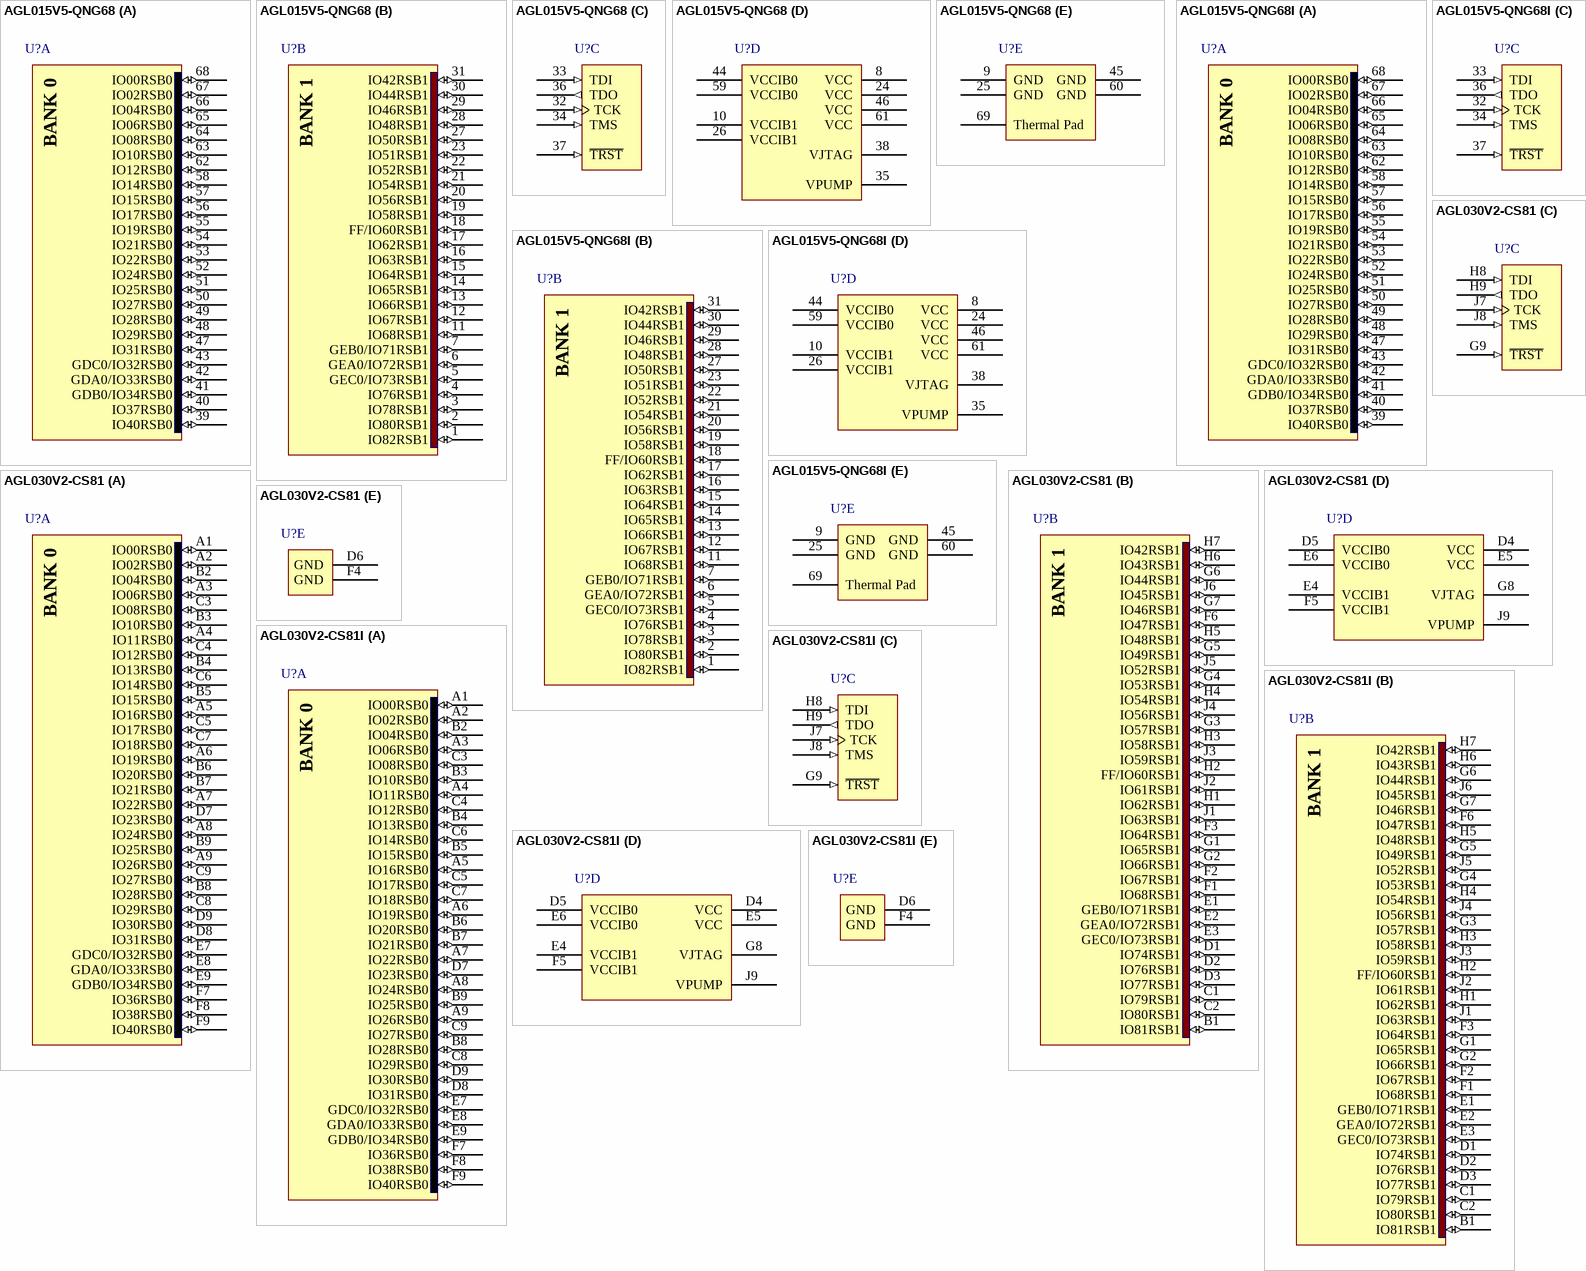
[diagram p2: symbols AGL015V5-QNG68 to AGL030V2-CS81I]

## AGL015V5-QNG68
designator U?
IGLOO Low-Power Flash 1.5V FPGA with Flash*Freeze, 49 User IOs, 15K System Gates, 1Kbit Flash ROM, 68-Pin QFN, Commercial Grade, Pb-Free; DatasheetVersion: v2.0, Nov-2009; PackageVersion: rev40, Jun-2011; PackageReference: QN68; PackageDescription: 68-Pin Quad Flat No-Lead 0.4 mm Pitch (QN68); Code_JEDEC: MO-220-VLLE-1; ComponentLink1Description: Manufacturer URL; ComponentLink1URL: http://www.actel.com/; ComponentLink2Description: IGLOO Datasheet; ComponentLink2URL: http://www.actel.com/documents/IGLOO_DS.pdf; ComponentLink3Description: Package Mechanical Drawings; ComponentLink3URL: http://www.actel.com/documents/PckgMechDrwngs.pdf; ComponentLink4Description: IGLOO Documents; ComponentLink4URL: http://www.actel.com/products/igloo/docs.aspx
footprint QN68_N (QFN, 68-Leads, Body 8x8mm, Pitch 0.4mm, Thermal Pad 3.1x3.1mm, IPC Medium Density)
footprint QN68_L (QFN, 68-Leads, Body 8x8mm, Pitch 0.4mm, Thermal Pad 3.1x3.1mm, IPC High Density)
footprint QN68_M (QFN, 68-Leads, Body 8x8mm, Pitch 0.4mm, Thermal Pad 3.1x3.1mm, IPC Low Density)
part A pins: 39 IO40RSB0 (io), 40 IO37RSB0 (io), 41 GDB0/IO34RSB0 (io), 42 GDA0/IO33RSB0 (io), 43 GDC0/IO32RSB0 (io), 47 IO31RSB0 (io), 48 IO29RSB0 (io), 49 IO28RSB0 (io), 50 IO27RSB0 (io), 51 IO25RSB0 (io), 52 IO24RSB0 (io), 53 IO22RSB0 (io), 54 IO21RSB0 (io), 55 IO19RSB0 (io), 56 IO17RSB0 (io), 57 IO15RSB0 (io), 58 IO14RSB0 (io), 62 IO12RSB0 (io), 63 IO10RSB0 (io), 64 IO08RSB0 (io), 65 IO06RSB0 (io), 66 IO04RSB0 (io), 67 IO02RSB0 (io), 68 IO00RSB0 (io)
part B pins: 1 IO82RSB1 (io), 2 IO80RSB1 (io), 3 IO78RSB1 (io), 4 IO76RSB1 (io), 5 GEC0/IO73RSB1 (io), 6 GEA0/IO72RSB1 (io), 7 GEB0/IO71RSB1 (io), 11 IO68RSB1 (io), 12 IO67RSB1 (io), 13 IO66RSB1 (io), 14 IO65RSB1 (io), 15 IO64RSB1 (io), 16 IO63RSB1 (io), 17 IO62RSB1 (io), 18 FF/IO60RSB1 (io), 19 IO58RSB1 (io), 20 IO56RSB1 (io), 21 IO54RSB1 (io), 22 IO52RSB1 (io), 23 IO51RSB1 (io), 27 IO50RSB1 (io), 28 IO48RSB1 (io), 29 IO46RSB1 (io), 30 IO44RSB1 (io), 31 IO42RSB1 (io)
part C pins: 32 TCK (in), 33 TDI (in), 34 TMS (in), 36 TDO (out), 37 ~{TRST} (in)
part D pins: 8 VCC (power), 10 VCCIB1 (power), 24 VCC (power), 26 VCCIB1 (power), 35 VPUMP (power), 38 VJTAG (power), 44 VCCIB0 (power), 46 VCC (power), 59 VCCIB0 (power), 61 VCC (power)
part E pins: 9 GND (power), 25 GND (power), 45 GND (power), 60 GND (power), 69 Thermal Pad (power)
part A text: BANK 0
part B text: BANK 1

## AGL015V5-QNG68I
designator U?
IGLOO Low-Power Flash 1.5V FPGA with Flash*Freeze, 49 User IOs, 15K System Gates, 1Kbit Flash ROM, 68-Pin QFN, Industrial Grade, Pb-Free; DatasheetVersion: v2.0, Nov-2009; PackageVersion: rev40, Jun-2011; PackageReference: QN68; PackageDescription: 68-Pin Quad Flat No-Lead 0.4 mm Pitch (QN68); Code_JEDEC: MO-220-VLLE-1; ComponentLink1Description: Manufacturer URL; ComponentLink1URL: http://www.actel.com/; ComponentLink2Description: IGLOO Datasheet; ComponentLink2URL: http://www.actel.com/documents/IGLOO_DS.pdf; ComponentLink3Description: Package Mechanical Drawings; ComponentLink3URL: http://www.actel.com/documents/PckgMechDrwngs.pdf; ComponentLink4Description: IGLOO Documents; ComponentLink4URL: http://www.actel.com/products/igloo/docs.aspx
footprint QN68_N (QFN, 68-Leads, Body 8x8mm, Pitch 0.4mm, Thermal Pad 3.1x3.1mm, IPC Medium Density)
footprint QN68_L (QFN, 68-Leads, Body 8x8mm, Pitch 0.4mm, Thermal Pad 3.1x3.1mm, IPC High Density)
footprint QN68_M (QFN, 68-Leads, Body 8x8mm, Pitch 0.4mm, Thermal Pad 3.1x3.1mm, IPC Low Density)
part A pins: 39 IO40RSB0 (io), 40 IO37RSB0 (io), 41 GDB0/IO34RSB0 (io), 42 GDA0/IO33RSB0 (io), 43 GDC0/IO32RSB0 (io), 47 IO31RSB0 (io), 48 IO29RSB0 (io), 49 IO28RSB0 (io), 50 IO27RSB0 (io), 51 IO25RSB0 (io), 52 IO24RSB0 (io), 53 IO22RSB0 (io), 54 IO21RSB0 (io), 55 IO19RSB0 (io), 56 IO17RSB0 (io), 57 IO15RSB0 (io), 58 IO14RSB0 (io), 62 IO12RSB0 (io), 63 IO10RSB0 (io), 64 IO08RSB0 (io), 65 IO06RSB0 (io), 66 IO04RSB0 (io), 67 IO02RSB0 (io), 68 IO00RSB0 (io)
part B pins: 1 IO82RSB1 (io), 2 IO80RSB1 (io), 3 IO78RSB1 (io), 4 IO76RSB1 (io), 5 GEC0/IO73RSB1 (io), 6 GEA0/IO72RSB1 (io), 7 GEB0/IO71RSB1 (io), 11 IO68RSB1 (io), 12 IO67RSB1 (io), 13 IO66RSB1 (io), 14 IO65RSB1 (io), 15 IO64RSB1 (io), 16 IO63RSB1 (io), 17 IO62RSB1 (io), 18 FF/IO60RSB1 (io), 19 IO58RSB1 (io), 20 IO56RSB1 (io), 21 IO54RSB1 (io), 22 IO52RSB1 (io), 23 IO51RSB1 (io), 27 IO50RSB1 (io), 28 IO48RSB1 (io), 29 IO46RSB1 (io), 30 IO44RSB1 (io), 31 IO42RSB1 (io)
part C pins: 32 TCK (in), 33 TDI (in), 34 TMS (in), 36 TDO (out), 37 ~{TRST} (in)
part D pins: 8 VCC (power), 10 VCCIB1 (power), 24 VCC (power), 26 VCCIB1 (power), 35 VPUMP (power), 38 VJTAG (power), 44 VCCIB0 (power), 46 VCC (power), 59 VCCIB0 (power), 61 VCC (power)
part E pins: 9 GND (power), 25 GND (power), 45 GND (power), 60 GND (power), 69 Thermal Pad (power)
part A text: BANK 0
part B text: BANK 1

## AGL030V2-CS81
designator U?
IGLOO Low-Power Flash 1.2/1.5V FPGA with Flash*Freeze, 66 User IOs, 30K System Gates, 1Kbit Flash ROM, 81-Pin CSP, Commercial Grade; DatasheetVersion: v2.0, Nov-2009; PackageVersion: rev40, Jun-2011; PackageReference: CS81; PackageDescription: 81-Ball Chip Scale Ball Grid Array 0.5 mm Pitch (CS81); Code_JEDEC: MO-195-AB; ComponentLink1Description: Manufacturer URL; ComponentLink1URL: http://www.actel.com/; ComponentLink2Description: IGLOO Datasheet; ComponentLink2URL: http://www.actel.com/documents/IGLOO_DS.pdf; ComponentLink3Description: Package Mechanical Drawings; ComponentLink3URL: http://www.actel.com/documents/PckgMechDrwngs.pdf; ComponentLink4Description: IGLOO Documents; ComponentLink4URL: http://www.actel.com/products/igloo/docs.aspx
footprint CS81 (BGA, 81-Leads, Body 5x5mm, Pitch 0.5mm)
part A pins: A1 IO00RSB0 (io), A2 IO02RSB0 (io), A3 IO06RSB0 (io), A4 IO11RSB0 (io), A5 IO16RSB0 (io), A6 IO19RSB0 (io), A7 IO22RSB0 (io), A8 IO24RSB0 (io), A9 IO26RSB0 (io), B2 IO04RSB0 (io), B3 IO10RSB0 (io), B4 IO13RSB0 (io), B5 IO15RSB0 (io), B6 IO20RSB0 (io), B7 IO21RSB0 (io), B8 IO28RSB0 (io), B9 IO25RSB0 (io), C3 IO08RSB0 (io), C4 IO12RSB0 (io), C5 IO17RSB0 (io), C6 IO14RSB0 (io), C7 IO18RSB0 (io), C8 IO29RSB0 (io), C9 IO27RSB0 (io), D7 IO23RSB0 (io), D8 IO31RSB0 (io), D9 IO30RSB0 (io), E7 GDC0/IO32RSB0 (io), E8 GDA0/IO33RSB0 (io), E9 GDB0/IO34RSB0 (io), F7 IO36RSB0 (io), F8 IO38RSB0 (io), F9 IO40RSB0 (io)
part B pins: B1 IO81RSB1 (io), C1 IO79RSB1 (io), C2 IO80RSB1 (io), D1 IO74RSB1 (io), D2 IO76RSB1 (io), D3 IO77RSB1 (io), E1 GEB0/IO71RSB1 (io), E2 GEA0/IO72RSB1 (io), E3 GEC0/IO73RSB1 (io), F1 IO68RSB1 (io), F2 IO67RSB1 (io), F3 IO64RSB1 (io), F6 IO47RSB1 (io), G1 IO65RSB1 (io), G2 IO66RSB1 (io), G3 IO57RSB1 (io), G4 IO53RSB1 (io), G5 IO49RSB1 (io), G6 IO44RSB1 (io), G7 IO46RSB1 (io), H1 IO62RSB1 (io), H2 FF/IO60RSB1 (io), H3 IO58RSB1 (io), H4 IO54RSB1 (io), H5 IO48RSB1 (io), H6 IO43RSB1 (io), H7 IO42RSB1 (io), J1 IO63RSB1 (io), J2 IO61RSB1 (io), J3 IO59RSB1 (io), J4 IO56RSB1 (io), J5 IO52RSB1 (io), J6 IO45RSB1 (io)
part C pins: G9 ~{TRST} (in), H8 TDI (in), H9 TDO (out), J7 TCK (in), J8 TMS (in)
part D pins: D4 VCC (power), D5 VCCIB0 (power), E4 VCCIB1 (power), E5 VCC (power), E6 VCCIB0 (power), F5 VCCIB1 (power), G8 VJTAG (power), J9 VPUMP (power)
part E pins: D6 GND (power), F4 GND (power)
part A text: BANK 0
part B text: BANK 1

## AGL030V2-CS81I
designator U?
IGLOO Low-Power Flash 1.2/1.5V FPGA with Flash*Freeze, 66 User IOs, 30K System Gates, 1Kbit Flash ROM, 81-Pin CSP, Industrial Grade; DatasheetVersion: v2.0, Nov-2009; PackageVersion: rev40, Jun-2011; PackageReference: CS81; PackageDescription: 81-Ball Chip Scale Ball Grid Array 0.5 mm Pitch (CS81); Code_JEDEC: MO-195-AB; ComponentLink1Description: Manufacturer URL; ComponentLink1URL: http://www.actel.com/; ComponentLink2Description: IGLOO Datasheet; ComponentLink2URL: http://www.actel.com/documents/IGLOO_DS.pdf; ComponentLink3Description: Package Mechanical Drawings; ComponentLink3URL: http://www.actel.com/documents/PckgMechDrwngs.pdf; ComponentLink4Description: IGLOO Documents; ComponentLink4URL: http://www.actel.com/products/igloo/docs.aspx
footprint CS81 (BGA, 81-Leads, Body 5x5mm, Pitch 0.5mm)
part A pins: A1 IO00RSB0 (io), A2 IO02RSB0 (io), A3 IO06RSB0 (io), A4 IO11RSB0 (io), A5 IO16RSB0 (io), A6 IO19RSB0 (io), A7 IO22RSB0 (io), A8 IO24RSB0 (io), A9 IO26RSB0 (io), B2 IO04RSB0 (io), B3 IO10RSB0 (io), B4 IO13RSB0 (io), B5 IO15RSB0 (io), B6 IO20RSB0 (io), B7 IO21RSB0 (io), B8 IO28RSB0 (io), B9 IO25RSB0 (io), C3 IO08RSB0 (io), C4 IO12RSB0 (io), C5 IO17RSB0 (io), C6 IO14RSB0 (io), C7 IO18RSB0 (io), C8 IO29RSB0 (io), C9 IO27RSB0 (io), D7 IO23RSB0 (io), D8 IO31RSB0 (io), D9 IO30RSB0 (io), E7 GDC0/IO32RSB0 (io), E8 GDA0/IO33RSB0 (io), E9 GDB0/IO34RSB0 (io), F7 IO36RSB0 (io), F8 IO38RSB0 (io), F9 IO40RSB0 (io)
part B pins: B1 IO81RSB1 (io), C1 IO79RSB1 (io), C2 IO80RSB1 (io), D1 IO74RSB1 (io), D2 IO76RSB1 (io), D3 IO77RSB1 (io), E1 GEB0/IO71RSB1 (io), E2 GEA0/IO72RSB1 (io), E3 GEC0/IO73RSB1 (io), F1 IO68RSB1 (io), F2 IO67RSB1 (io), F3 IO64RSB1 (io), F6 IO47RSB1 (io), G1 IO65RSB1 (io), G2 IO66RSB1 (io), G3 IO57RSB1 (io), G4 IO53RSB1 (io), G5 IO49RSB1 (io), G6 IO44RSB1 (io), G7 IO46RSB1 (io), H1 IO62RSB1 (io), H2 FF/IO60RSB1 (io), H3 IO58RSB1 (io), H4 IO54RSB1 (io), H5 IO48RSB1 (io), H6 IO43RSB1 (io), H7 IO42RSB1 (io), J1 IO63RSB1 (io), J2 IO61RSB1 (io), J3 IO59RSB1 (io), J4 IO56RSB1 (io), J5 IO52RSB1 (io), J6 IO45RSB1 (io)
part C pins: G9 ~{TRST} (in), H8 TDI (in), H9 TDO (out), J7 TCK (in), J8 TMS (in)
part D pins: D4 VCC (power), D5 VCCIB0 (power), E4 VCCIB1 (power), E5 VCC (power), E6 VCCIB0 (power), F5 VCCIB1 (power), G8 VJTAG (power), J9 VPUMP (power)
part E pins: D6 GND (power), F4 GND (power)
part A text: BANK 0
part B text: BANK 1

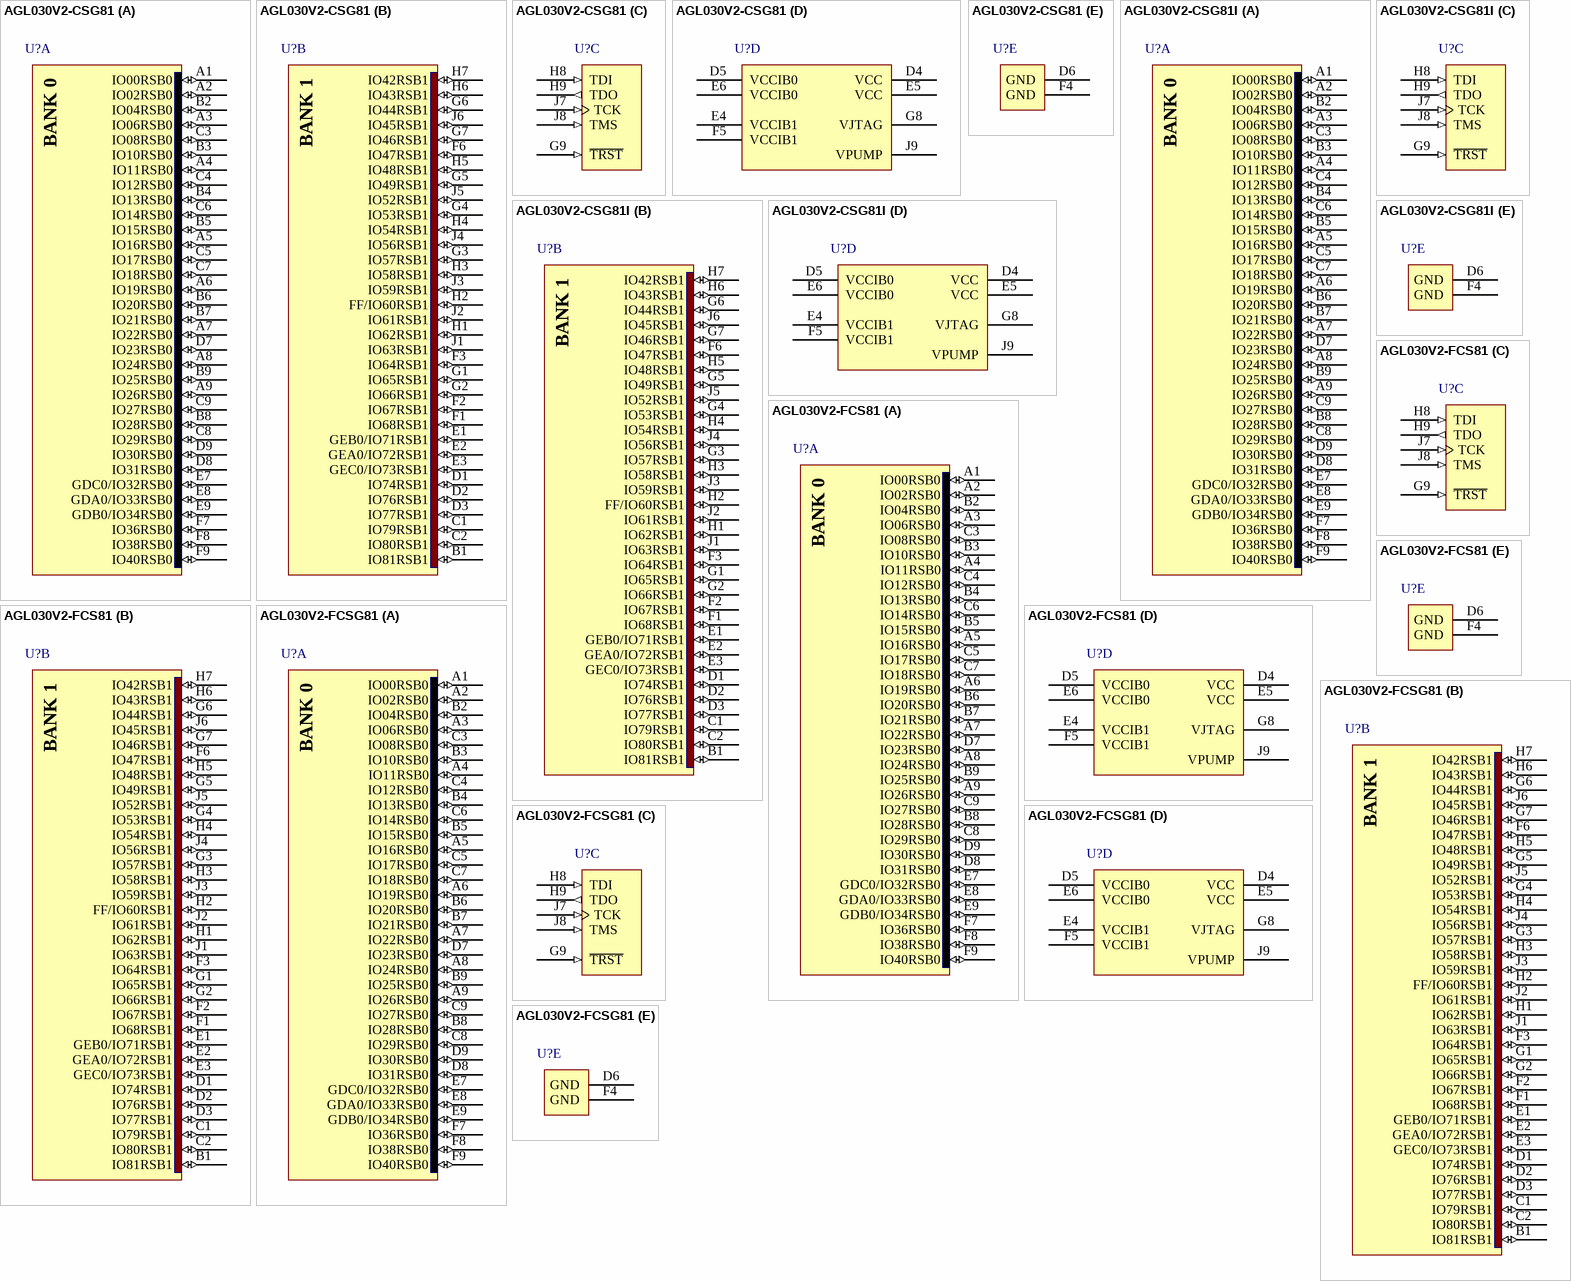
[diagram p3: symbols AGL030V2-CSG81 to AGL030V2-FCSG81]

## AGL030V2-CSG81
designator U?
IGLOO Low-Power Flash 1.2/1.5V FPGA with Flash*Freeze, 66 User IOs, 30K System Gates, 1Kbit Flash ROM, 81-Pin CSP, Commercial Grade, Pb-Free; DatasheetVersion: v2.0, Nov-2009; PackageVersion: rev40, Jun-2011; PackageReference: CS81; PackageDescription: 81-Ball Chip Scale Ball Grid Array 0.5 mm Pitch (CS81); Code_JEDEC: MO-195-AB; ComponentLink1Description: Manufacturer URL; ComponentLink1URL: http://www.actel.com/; ComponentLink2Description: IGLOO Datasheet; ComponentLink2URL: http://www.actel.com/documents/IGLOO_DS.pdf; ComponentLink3Description: Package Mechanical Drawings; ComponentLink3URL: http://www.actel.com/documents/PckgMechDrwngs.pdf; ComponentLink4Description: IGLOO Documents; ComponentLink4URL: http://www.actel.com/products/igloo/docs.aspx
footprint CS81 (BGA, 81-Leads, Body 5x5mm, Pitch 0.5mm)
part A pins: A1 IO00RSB0 (io), A2 IO02RSB0 (io), A3 IO06RSB0 (io), A4 IO11RSB0 (io), A5 IO16RSB0 (io), A6 IO19RSB0 (io), A7 IO22RSB0 (io), A8 IO24RSB0 (io), A9 IO26RSB0 (io), B2 IO04RSB0 (io), B3 IO10RSB0 (io), B4 IO13RSB0 (io), B5 IO15RSB0 (io), B6 IO20RSB0 (io), B7 IO21RSB0 (io), B8 IO28RSB0 (io), B9 IO25RSB0 (io), C3 IO08RSB0 (io), C4 IO12RSB0 (io), C5 IO17RSB0 (io), C6 IO14RSB0 (io), C7 IO18RSB0 (io), C8 IO29RSB0 (io), C9 IO27RSB0 (io), D7 IO23RSB0 (io), D8 IO31RSB0 (io), D9 IO30RSB0 (io), E7 GDC0/IO32RSB0 (io), E8 GDA0/IO33RSB0 (io), E9 GDB0/IO34RSB0 (io), F7 IO36RSB0 (io), F8 IO38RSB0 (io), F9 IO40RSB0 (io)
part B pins: B1 IO81RSB1 (io), C1 IO79RSB1 (io), C2 IO80RSB1 (io), D1 IO74RSB1 (io), D2 IO76RSB1 (io), D3 IO77RSB1 (io), E1 GEB0/IO71RSB1 (io), E2 GEA0/IO72RSB1 (io), E3 GEC0/IO73RSB1 (io), F1 IO68RSB1 (io), F2 IO67RSB1 (io), F3 IO64RSB1 (io), F6 IO47RSB1 (io), G1 IO65RSB1 (io), G2 IO66RSB1 (io), G3 IO57RSB1 (io), G4 IO53RSB1 (io), G5 IO49RSB1 (io), G6 IO44RSB1 (io), G7 IO46RSB1 (io), H1 IO62RSB1 (io), H2 FF/IO60RSB1 (io), H3 IO58RSB1 (io), H4 IO54RSB1 (io), H5 IO48RSB1 (io), H6 IO43RSB1 (io), H7 IO42RSB1 (io), J1 IO63RSB1 (io), J2 IO61RSB1 (io), J3 IO59RSB1 (io), J4 IO56RSB1 (io), J5 IO52RSB1 (io), J6 IO45RSB1 (io)
part C pins: G9 ~{TRST} (in), H8 TDI (in), H9 TDO (out), J7 TCK (in), J8 TMS (in)
part D pins: D4 VCC (power), D5 VCCIB0 (power), E4 VCCIB1 (power), E5 VCC (power), E6 VCCIB0 (power), F5 VCCIB1 (power), G8 VJTAG (power), J9 VPUMP (power)
part E pins: D6 GND (power), F4 GND (power)
part A text: BANK 0
part B text: BANK 1

## AGL030V2-CSG81I
designator U?
IGLOO Low-Power Flash 1.2/1.5V FPGA with Flash*Freeze, 66 User IOs, 30K System Gates, 1Kbit Flash ROM, 81-Pin CSP, Industrial Grade, Pb-Free; DatasheetVersion: v2.0, Nov-2009; PackageVersion: rev40, Jun-2011; PackageReference: CS81; PackageDescription: 81-Ball Chip Scale Ball Grid Array 0.5 mm Pitch (CS81); Code_JEDEC: MO-195-AB; ComponentLink1Description: Manufacturer URL; ComponentLink1URL: http://www.actel.com/; ComponentLink2Description: IGLOO Datasheet; ComponentLink2URL: http://www.actel.com/documents/IGLOO_DS.pdf; ComponentLink3Description: Package Mechanical Drawings; ComponentLink3URL: http://www.actel.com/documents/PckgMechDrwngs.pdf; ComponentLink4Description: IGLOO Documents; ComponentLink4URL: http://www.actel.com/products/igloo/docs.aspx
footprint CS81 (BGA, 81-Leads, Body 5x5mm, Pitch 0.5mm)
part A pins: A1 IO00RSB0 (io), A2 IO02RSB0 (io), A3 IO06RSB0 (io), A4 IO11RSB0 (io), A5 IO16RSB0 (io), A6 IO19RSB0 (io), A7 IO22RSB0 (io), A8 IO24RSB0 (io), A9 IO26RSB0 (io), B2 IO04RSB0 (io), B3 IO10RSB0 (io), B4 IO13RSB0 (io), B5 IO15RSB0 (io), B6 IO20RSB0 (io), B7 IO21RSB0 (io), B8 IO28RSB0 (io), B9 IO25RSB0 (io), C3 IO08RSB0 (io), C4 IO12RSB0 (io), C5 IO17RSB0 (io), C6 IO14RSB0 (io), C7 IO18RSB0 (io), C8 IO29RSB0 (io), C9 IO27RSB0 (io), D7 IO23RSB0 (io), D8 IO31RSB0 (io), D9 IO30RSB0 (io), E7 GDC0/IO32RSB0 (io), E8 GDA0/IO33RSB0 (io), E9 GDB0/IO34RSB0 (io), F7 IO36RSB0 (io), F8 IO38RSB0 (io), F9 IO40RSB0 (io)
part B pins: B1 IO81RSB1 (io), C1 IO79RSB1 (io), C2 IO80RSB1 (io), D1 IO74RSB1 (io), D2 IO76RSB1 (io), D3 IO77RSB1 (io), E1 GEB0/IO71RSB1 (io), E2 GEA0/IO72RSB1 (io), E3 GEC0/IO73RSB1 (io), F1 IO68RSB1 (io), F2 IO67RSB1 (io), F3 IO64RSB1 (io), F6 IO47RSB1 (io), G1 IO65RSB1 (io), G2 IO66RSB1 (io), G3 IO57RSB1 (io), G4 IO53RSB1 (io), G5 IO49RSB1 (io), G6 IO44RSB1 (io), G7 IO46RSB1 (io), H1 IO62RSB1 (io), H2 FF/IO60RSB1 (io), H3 IO58RSB1 (io), H4 IO54RSB1 (io), H5 IO48RSB1 (io), H6 IO43RSB1 (io), H7 IO42RSB1 (io), J1 IO63RSB1 (io), J2 IO61RSB1 (io), J3 IO59RSB1 (io), J4 IO56RSB1 (io), J5 IO52RSB1 (io), J6 IO45RSB1 (io)
part C pins: G9 ~{TRST} (in), H8 TDI (in), H9 TDO (out), J7 TCK (in), J8 TMS (in)
part D pins: D4 VCC (power), D5 VCCIB0 (power), E4 VCCIB1 (power), E5 VCC (power), E6 VCCIB0 (power), F5 VCCIB1 (power), G8 VJTAG (power), J9 VPUMP (power)
part E pins: D6 GND (power), F4 GND (power)
part A text: BANK 0
part B text: BANK 1

## AGL030V2-FCS81
designator U?
IGLOO Low-Power Flash 1.2/1.5V FPGA with Flash*Freeze, 66 User IOs, 30K System Gates, 1Kbit Flash ROM, 81-Pin CSP, F Speed Grade, Commercial Grade; DatasheetVersion: v1.2, Feb-2008; PackageVersion: rev40, Jun-2011; PackageReference: CS81; PackageDescription: 81-Ball Chip Scale Ball Grid Array 0.5 mm Pitch (CS81); Code_JEDEC: MO-195-AB; ComponentLink1Description: Manufacturer URL; ComponentLink1URL: http://www.actel.com/; ComponentLink2Description: IGLOO Datasheet; ComponentLink2URL: http://www.actel.com/documents/IGLOO_DS.pdf; ComponentLink3Description: Package Mechanical Drawings; ComponentLink3URL: http://www.actel.com/documents/PckgMechDrwngs.pdf; ComponentLink4Description: IGLOO Documents; ComponentLink4URL: http://www.actel.com/products/igloo/docs.aspx
footprint CS81 (BGA, 81-Leads, Body 5x5mm, Pitch 0.5mm)
part A pins: A1 IO00RSB0 (io), A2 IO02RSB0 (io), A3 IO06RSB0 (io), A4 IO11RSB0 (io), A5 IO16RSB0 (io), A6 IO19RSB0 (io), A7 IO22RSB0 (io), A8 IO24RSB0 (io), A9 IO26RSB0 (io), B2 IO04RSB0 (io), B3 IO10RSB0 (io), B4 IO13RSB0 (io), B5 IO15RSB0 (io), B6 IO20RSB0 (io), B7 IO21RSB0 (io), B8 IO28RSB0 (io), B9 IO25RSB0 (io), C3 IO08RSB0 (io), C4 IO12RSB0 (io), C5 IO17RSB0 (io), C6 IO14RSB0 (io), C7 IO18RSB0 (io), C8 IO29RSB0 (io), C9 IO27RSB0 (io), D7 IO23RSB0 (io), D8 IO31RSB0 (io), D9 IO30RSB0 (io), E7 GDC0/IO32RSB0 (io), E8 GDA0/IO33RSB0 (io), E9 GDB0/IO34RSB0 (io), F7 IO36RSB0 (io), F8 IO38RSB0 (io), F9 IO40RSB0 (io)
part B pins: B1 IO81RSB1 (io), C1 IO79RSB1 (io), C2 IO80RSB1 (io), D1 IO74RSB1 (io), D2 IO76RSB1 (io), D3 IO77RSB1 (io), E1 GEB0/IO71RSB1 (io), E2 GEA0/IO72RSB1 (io), E3 GEC0/IO73RSB1 (io), F1 IO68RSB1 (io), F2 IO67RSB1 (io), F3 IO64RSB1 (io), F6 IO47RSB1 (io), G1 IO65RSB1 (io), G2 IO66RSB1 (io), G3 IO57RSB1 (io), G4 IO53RSB1 (io), G5 IO49RSB1 (io), G6 IO44RSB1 (io), G7 IO46RSB1 (io), H1 IO62RSB1 (io), H2 FF/IO60RSB1 (io), H3 IO58RSB1 (io), H4 IO54RSB1 (io), H5 IO48RSB1 (io), H6 IO43RSB1 (io), H7 IO42RSB1 (io), J1 IO63RSB1 (io), J2 IO61RSB1 (io), J3 IO59RSB1 (io), J4 IO56RSB1 (io), J5 IO52RSB1 (io), J6 IO45RSB1 (io)
part C pins: G9 ~{TRST} (in), H8 TDI (in), H9 TDO (out), J7 TCK (in), J8 TMS (in)
part D pins: D4 VCC (power), D5 VCCIB0 (power), E4 VCCIB1 (power), E5 VCC (power), E6 VCCIB0 (power), F5 VCCIB1 (power), G8 VJTAG (power), J9 VPUMP (power)
part E pins: D6 GND (power), F4 GND (power)
part A text: BANK 0
part B text: BANK 1

## AGL030V2-FCSG81
designator U?
IGLOO Low-Power Flash 1.2/1.5V FPGA with Flash*Freeze, 66 User IOs, 30K System Gates, 1Kbit Flash ROM, 81-Pin CSP, F Speed Grade, Commercial Grade, Pb-Free; DatasheetVersion: v1.2, Feb-2008; PackageVersion: rev40, Jun-2011; PackageReference: CS81; PackageDescription: 81-Ball Chip Scale Ball Grid Array 0.5 mm Pitch (CS81); Code_JEDEC: MO-195-AB; ComponentLink1Description: Manufacturer URL; ComponentLink1URL: http://www.actel.com/; ComponentLink2Description: IGLOO Datasheet; ComponentLink2URL: http://www.actel.com/documents/IGLOO_DS.pdf; ComponentLink3Description: Package Mechanical Drawings; ComponentLink3URL: http://www.actel.com/documents/PckgMechDrwngs.pdf; ComponentLink4Description: IGLOO Documents; ComponentLink4URL: http://www.actel.com/products/igloo/docs.aspx
footprint CS81 (BGA, 81-Leads, Body 5x5mm, Pitch 0.5mm)
part A pins: A1 IO00RSB0 (io), A2 IO02RSB0 (io), A3 IO06RSB0 (io), A4 IO11RSB0 (io), A5 IO16RSB0 (io), A6 IO19RSB0 (io), A7 IO22RSB0 (io), A8 IO24RSB0 (io), A9 IO26RSB0 (io), B2 IO04RSB0 (io), B3 IO10RSB0 (io), B4 IO13RSB0 (io), B5 IO15RSB0 (io), B6 IO20RSB0 (io), B7 IO21RSB0 (io), B8 IO28RSB0 (io), B9 IO25RSB0 (io), C3 IO08RSB0 (io), C4 IO12RSB0 (io), C5 IO17RSB0 (io), C6 IO14RSB0 (io), C7 IO18RSB0 (io), C8 IO29RSB0 (io), C9 IO27RSB0 (io), D7 IO23RSB0 (io), D8 IO31RSB0 (io), D9 IO30RSB0 (io), E7 GDC0/IO32RSB0 (io), E8 GDA0/IO33RSB0 (io), E9 GDB0/IO34RSB0 (io), F7 IO36RSB0 (io), F8 IO38RSB0 (io), F9 IO40RSB0 (io)
part B pins: B1 IO81RSB1 (io), C1 IO79RSB1 (io), C2 IO80RSB1 (io), D1 IO74RSB1 (io), D2 IO76RSB1 (io), D3 IO77RSB1 (io), E1 GEB0/IO71RSB1 (io), E2 GEA0/IO72RSB1 (io), E3 GEC0/IO73RSB1 (io), F1 IO68RSB1 (io), F2 IO67RSB1 (io), F3 IO64RSB1 (io), F6 IO47RSB1 (io), G1 IO65RSB1 (io), G2 IO66RSB1 (io), G3 IO57RSB1 (io), G4 IO53RSB1 (io), G5 IO49RSB1 (io), G6 IO44RSB1 (io), G7 IO46RSB1 (io), H1 IO62RSB1 (io), H2 FF/IO60RSB1 (io), H3 IO58RSB1 (io), H4 IO54RSB1 (io), H5 IO48RSB1 (io), H6 IO43RSB1 (io), H7 IO42RSB1 (io), J1 IO63RSB1 (io), J2 IO61RSB1 (io), J3 IO59RSB1 (io), J4 IO56RSB1 (io), J5 IO52RSB1 (io), J6 IO45RSB1 (io)
part C pins: G9 ~{TRST} (in), H8 TDI (in), H9 TDO (out), J7 TCK (in), J8 TMS (in)
part D pins: D4 VCC (power), D5 VCCIB0 (power), E4 VCCIB1 (power), E5 VCC (power), E6 VCCIB0 (power), F5 VCCIB1 (power), G8 VJTAG (power), J9 VPUMP (power)
part E pins: D6 GND (power), F4 GND (power)
part A text: BANK 0
part B text: BANK 1

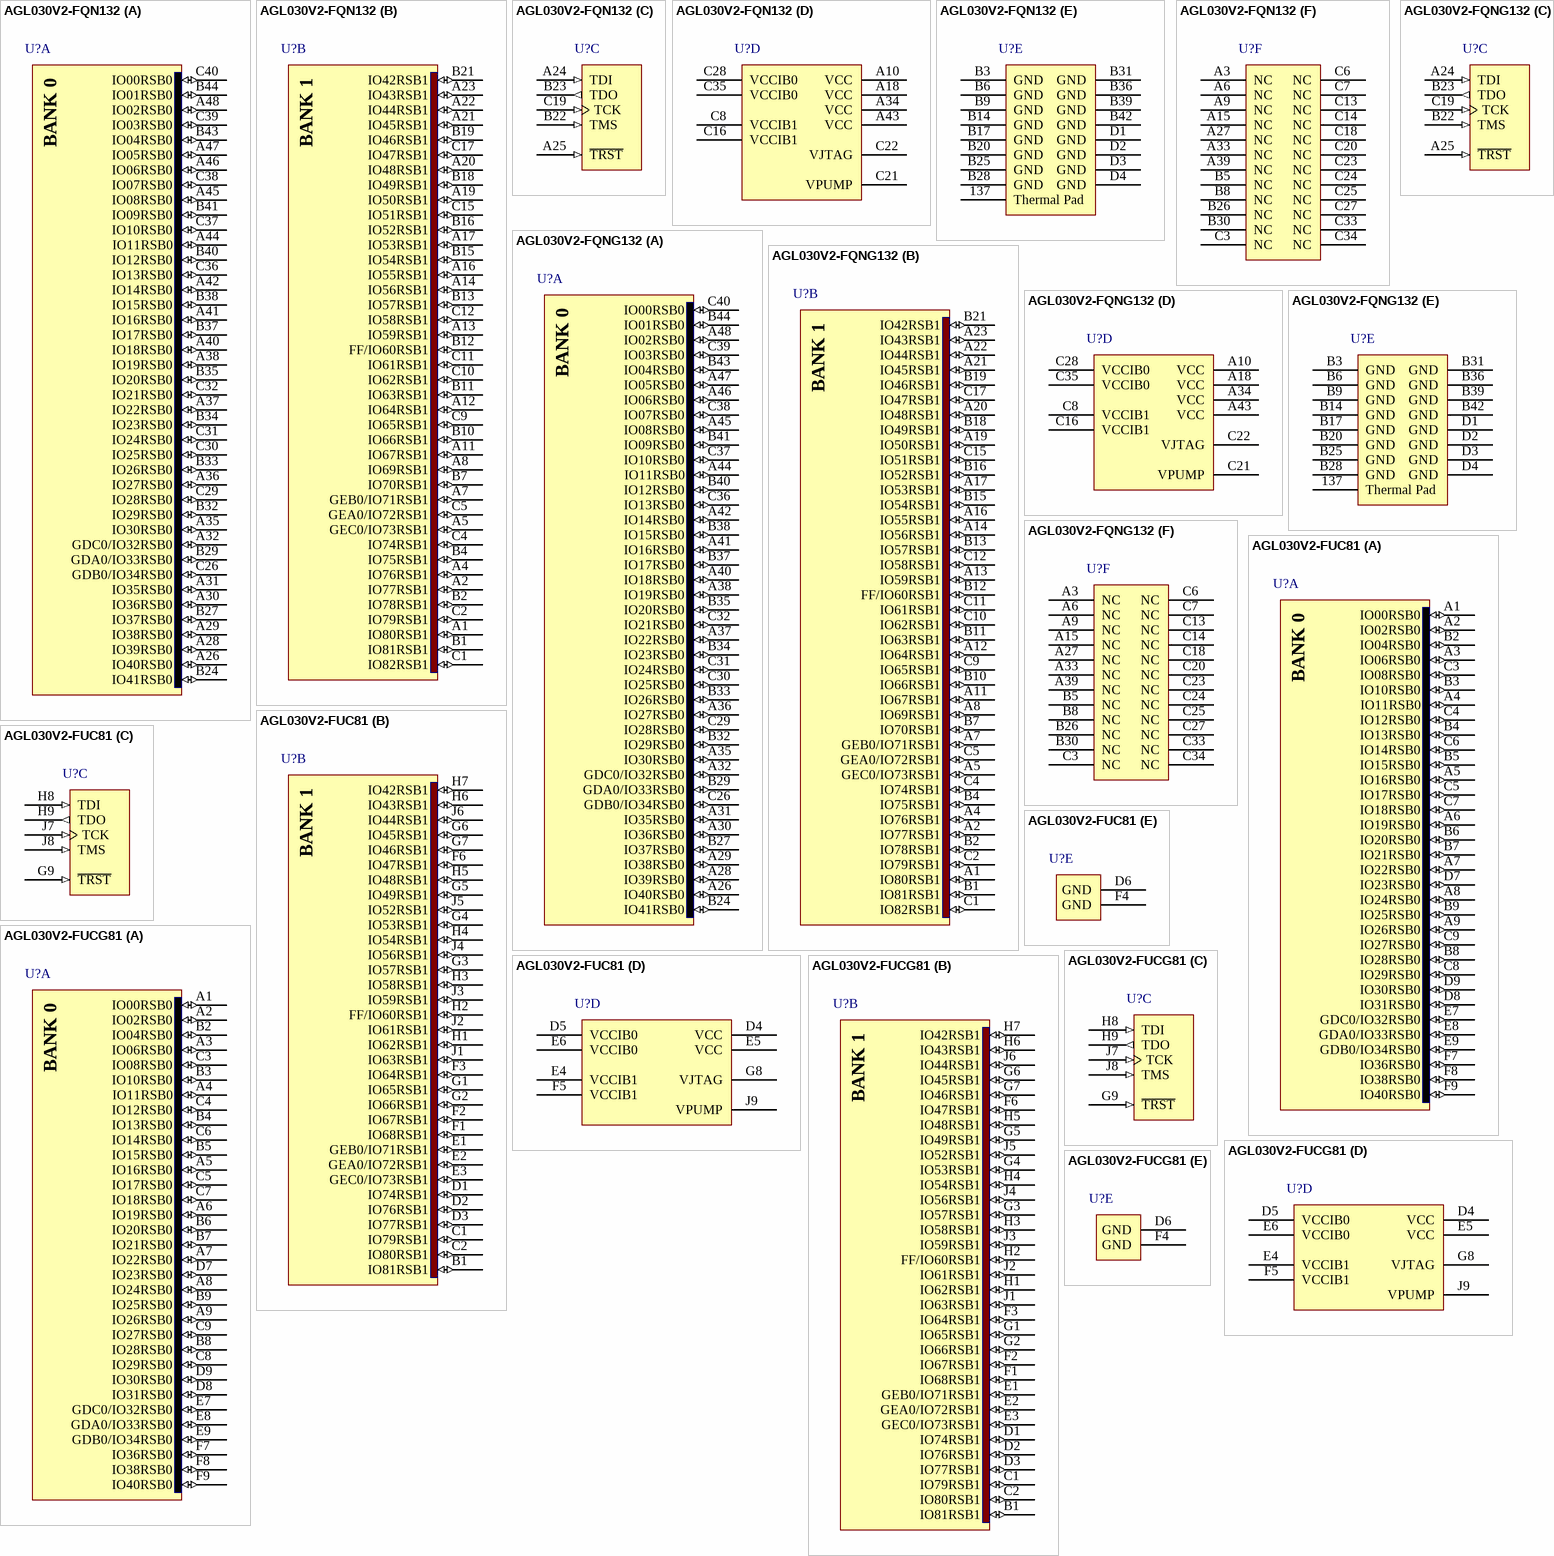
[diagram p4: symbols AGL030V2-FQN132 to AGL030V2-FUCG81]

## AGL030V2-FQN132
designator U?
IGLOO Low-Power Flash 1.2/1.5V FPGA with Flash*Freeze, 81 User IOs, 30K System Gates, 1Kbit Flash ROM, 132-Pin QFN, F Speed Grade, Commercial Grade; DatasheetVersion: v1.2, Feb-2008; PackageVersion: ver11.2, Nov-2009; PackageReference: QN132; PackageDescription: 132-Pin Quad Flat Pack No-Leads (QN132); ComponentLink1Description: Manufacturer URL; ComponentLink1URL: http://www.actel.com/; ComponentLink2Description: IGLOO Datasheet; ComponentLink2URL: http://www.actel.com/documents/IGLOO_DS.pdf; ComponentLink3Description: Package Mechanical Drawings; ComponentLink3URL: http://www.actel.com/documents/PckgMechDrwngs.pdf; ComponentLink4Description: IGLOO Documents; ComponentLink4URL: http://www.actel.com/products/igloo/docs.aspx
footprint QN132 (QFN, 137-Leads, Body 8x8mm, Pitch 0.5mm, Thermal Pad 4.7x4.7mm)
part A pins: A26 IO40RSB0 (io), A28 IO39RSB0 (io), A29 IO38RSB0 (io), A30 IO36RSB0 (io), A31 IO35RSB0 (io), A32 GDC0/IO32RSB0 (io), A35 IO30RSB0 (io), A36 IO27RSB0 (io), A37 IO22RSB0 (io), A38 IO19RSB0 (io), A40 IO18RSB0 (io), A41 IO16RSB0 (io), A42 IO14RSB0 (io), A44 IO11RSB0 (io), A45 IO08RSB0 (io), A46 IO06RSB0 (io), A47 IO05RSB0 (io), A48 IO02RSB0 (io), B24 IO41RSB0 (io), B27 IO37RSB0 (io), B29 GDA0/IO33RSB0 (io), B32 IO29RSB0 (io), B33 IO26RSB0 (io), B34 IO23RSB0 (io), B35 IO20RSB0 (io), B37 IO17RSB0 (io), B38 IO15RSB0 (io), B40 IO12RSB0 (io), B41 IO09RSB0 (io), B43 IO04RSB0 (io), B44 IO01RSB0 (io), C26 GDB0/IO34RSB0 (io), C29 IO28RSB0 (io), C30 IO25RSB0 (io), C31 IO24RSB0 (io), C32 IO21RSB0 (io), C36 IO13RSB0 (io), C37 IO10RSB0 (io), C38 IO07RSB0 (io), C39 IO03RSB0 (io), C40 IO00RSB0 (io)
part B pins: A1 IO80RSB1 (io), A2 IO77RSB1 (io), A4 IO76RSB1 (io), A5 GEC0/IO73RSB1 (io), A7 GEB0/IO71RSB1 (io), A8 IO69RSB1 (io), A11 IO67RSB1 (io), A12 IO64RSB1 (io), A13 IO59RSB1 (io), A14 IO56RSB1 (io), A16 IO55RSB1 (io), A17 IO53RSB1 (io), A19 IO50RSB1 (io), A20 IO48RSB1 (io), A21 IO45RSB1 (io), A22 IO44RSB1 (io), A23 IO43RSB1 (io), B1 IO81RSB1 (io), B2 IO78RSB1 (io), B4 IO75RSB1 (io), B7 IO70RSB1 (io), B10 IO66RSB1 (io), B11 IO63RSB1 (io), B12 FF/IO60RSB1 (io), B13 IO57RSB1 (io), B15 IO54RSB1 (io), B16 IO52RSB1 (io), B18 IO49RSB1 (io), B19 IO46RSB1 (io), B21 IO42RSB1 (io), C1 IO82RSB1 (io), C2 IO79RSB1 (io), C4 IO74RSB1 (io), C5 GEA0/IO72RSB1 (io), C9 IO65RSB1 (io), C10 IO62RSB1 (io), C11 IO61RSB1 (io), C12 IO58RSB1 (io), C15 IO51RSB1 (io), C17 IO47RSB1 (io)
part C pins: A24 TDI (in), A25 ~{TRST} (in), B22 TMS (in), B23 TDO (out), C19 TCK (in)
part D pins: A10 VCC (power), A18 VCC (power), A34 VCC (power), A43 VCC (power), C8 VCCIB1 (power), C16 VCCIB1 (power), C21 VPUMP (power), C22 VJTAG (power), C28 VCCIB0 (power), C35 VCCIB0 (power)
part E pins: 137 Thermal Pad (power), B3 GND (power), B6 GND (power), B9 GND (power), B14 GND (power), B17 GND (power), B20 GND (power), B25 GND (power), B28 GND (power), B31 GND (power), B36 GND (power), B39 GND (power), B42 GND (power), D1 GND (power), D2 GND (power), D3 GND (power), D4 GND (power)
part F pins: A3 NC, A6 NC, A9 NC, A15 NC, A27 NC, A33 NC, A39 NC, B5 NC, B8 NC, B26 NC, B30 NC, C3 NC, C6 NC, C7 NC, C13 NC, C14 NC, C18 NC, C20 NC, C23 NC, C24 NC, C25 NC, C27 NC, C33 NC, C34 NC
part A text: BANK 0
part B text: BANK 1

## AGL030V2-FQNG132
designator U?
IGLOO Low-Power Flash 1.2/1.5V FPGA with Flash*Freeze, 81 User IOs, 30K System Gates, 1Kbit Flash ROM, 132-Pin QFN, F Speed Grade, Commercial Grade, Pb-Free; DatasheetVersion: v1.2, Feb-2008; PackageVersion: ver11.2, Nov-2009; PackageReference: QN132; PackageDescription: 132-Pin Quad Flat Pack No-Leads (QN132); ComponentLink1Description: Manufacturer URL; ComponentLink1URL: http://www.actel.com/; ComponentLink2Description: IGLOO Datasheet; ComponentLink2URL: http://www.actel.com/documents/IGLOO_DS.pdf; ComponentLink3Description: Package Mechanical Drawings; ComponentLink3URL: http://www.actel.com/documents/PckgMechDrwngs.pdf; ComponentLink4Description: IGLOO Documents; ComponentLink4URL: http://www.actel.com/products/igloo/docs.aspx
footprint QN132 (QFN, 137-Leads, Body 8x8mm, Pitch 0.5mm, Thermal Pad 4.7x4.7mm)
part A pins: A26 IO40RSB0 (io), A28 IO39RSB0 (io), A29 IO38RSB0 (io), A30 IO36RSB0 (io), A31 IO35RSB0 (io), A32 GDC0/IO32RSB0 (io), A35 IO30RSB0 (io), A36 IO27RSB0 (io), A37 IO22RSB0 (io), A38 IO19RSB0 (io), A40 IO18RSB0 (io), A41 IO16RSB0 (io), A42 IO14RSB0 (io), A44 IO11RSB0 (io), A45 IO08RSB0 (io), A46 IO06RSB0 (io), A47 IO05RSB0 (io), A48 IO02RSB0 (io), B24 IO41RSB0 (io), B27 IO37RSB0 (io), B29 GDA0/IO33RSB0 (io), B32 IO29RSB0 (io), B33 IO26RSB0 (io), B34 IO23RSB0 (io), B35 IO20RSB0 (io), B37 IO17RSB0 (io), B38 IO15RSB0 (io), B40 IO12RSB0 (io), B41 IO09RSB0 (io), B43 IO04RSB0 (io), B44 IO01RSB0 (io), C26 GDB0/IO34RSB0 (io), C29 IO28RSB0 (io), C30 IO25RSB0 (io), C31 IO24RSB0 (io), C32 IO21RSB0 (io), C36 IO13RSB0 (io), C37 IO10RSB0 (io), C38 IO07RSB0 (io), C39 IO03RSB0 (io), C40 IO00RSB0 (io)
part B pins: A1 IO80RSB1 (io), A2 IO77RSB1 (io), A4 IO76RSB1 (io), A5 GEC0/IO73RSB1 (io), A7 GEB0/IO71RSB1 (io), A8 IO69RSB1 (io), A11 IO67RSB1 (io), A12 IO64RSB1 (io), A13 IO59RSB1 (io), A14 IO56RSB1 (io), A16 IO55RSB1 (io), A17 IO53RSB1 (io), A19 IO50RSB1 (io), A20 IO48RSB1 (io), A21 IO45RSB1 (io), A22 IO44RSB1 (io), A23 IO43RSB1 (io), B1 IO81RSB1 (io), B2 IO78RSB1 (io), B4 IO75RSB1 (io), B7 IO70RSB1 (io), B10 IO66RSB1 (io), B11 IO63RSB1 (io), B12 FF/IO60RSB1 (io), B13 IO57RSB1 (io), B15 IO54RSB1 (io), B16 IO52RSB1 (io), B18 IO49RSB1 (io), B19 IO46RSB1 (io), B21 IO42RSB1 (io), C1 IO82RSB1 (io), C2 IO79RSB1 (io), C4 IO74RSB1 (io), C5 GEA0/IO72RSB1 (io), C9 IO65RSB1 (io), C10 IO62RSB1 (io), C11 IO61RSB1 (io), C12 IO58RSB1 (io), C15 IO51RSB1 (io), C17 IO47RSB1 (io)
part C pins: A24 TDI (in), A25 ~{TRST} (in), B22 TMS (in), B23 TDO (out), C19 TCK (in)
part D pins: A10 VCC (power), A18 VCC (power), A34 VCC (power), A43 VCC (power), C8 VCCIB1 (power), C16 VCCIB1 (power), C21 VPUMP (power), C22 VJTAG (power), C28 VCCIB0 (power), C35 VCCIB0 (power)
part E pins: 137 Thermal Pad (power), B3 GND (power), B6 GND (power), B9 GND (power), B14 GND (power), B17 GND (power), B20 GND (power), B25 GND (power), B28 GND (power), B31 GND (power), B36 GND (power), B39 GND (power), B42 GND (power), D1 GND (power), D2 GND (power), D3 GND (power), D4 GND (power)
part F pins: A3 NC, A6 NC, A9 NC, A15 NC, A27 NC, A33 NC, A39 NC, B5 NC, B8 NC, B26 NC, B30 NC, C3 NC, C6 NC, C7 NC, C13 NC, C14 NC, C18 NC, C20 NC, C23 NC, C24 NC, C25 NC, C27 NC, C33 NC, C34 NC
part A text: BANK 0
part B text: BANK 1